# Altium integrated library Altera APEX II.IntLib: 30 symbols (part 10 of 15)

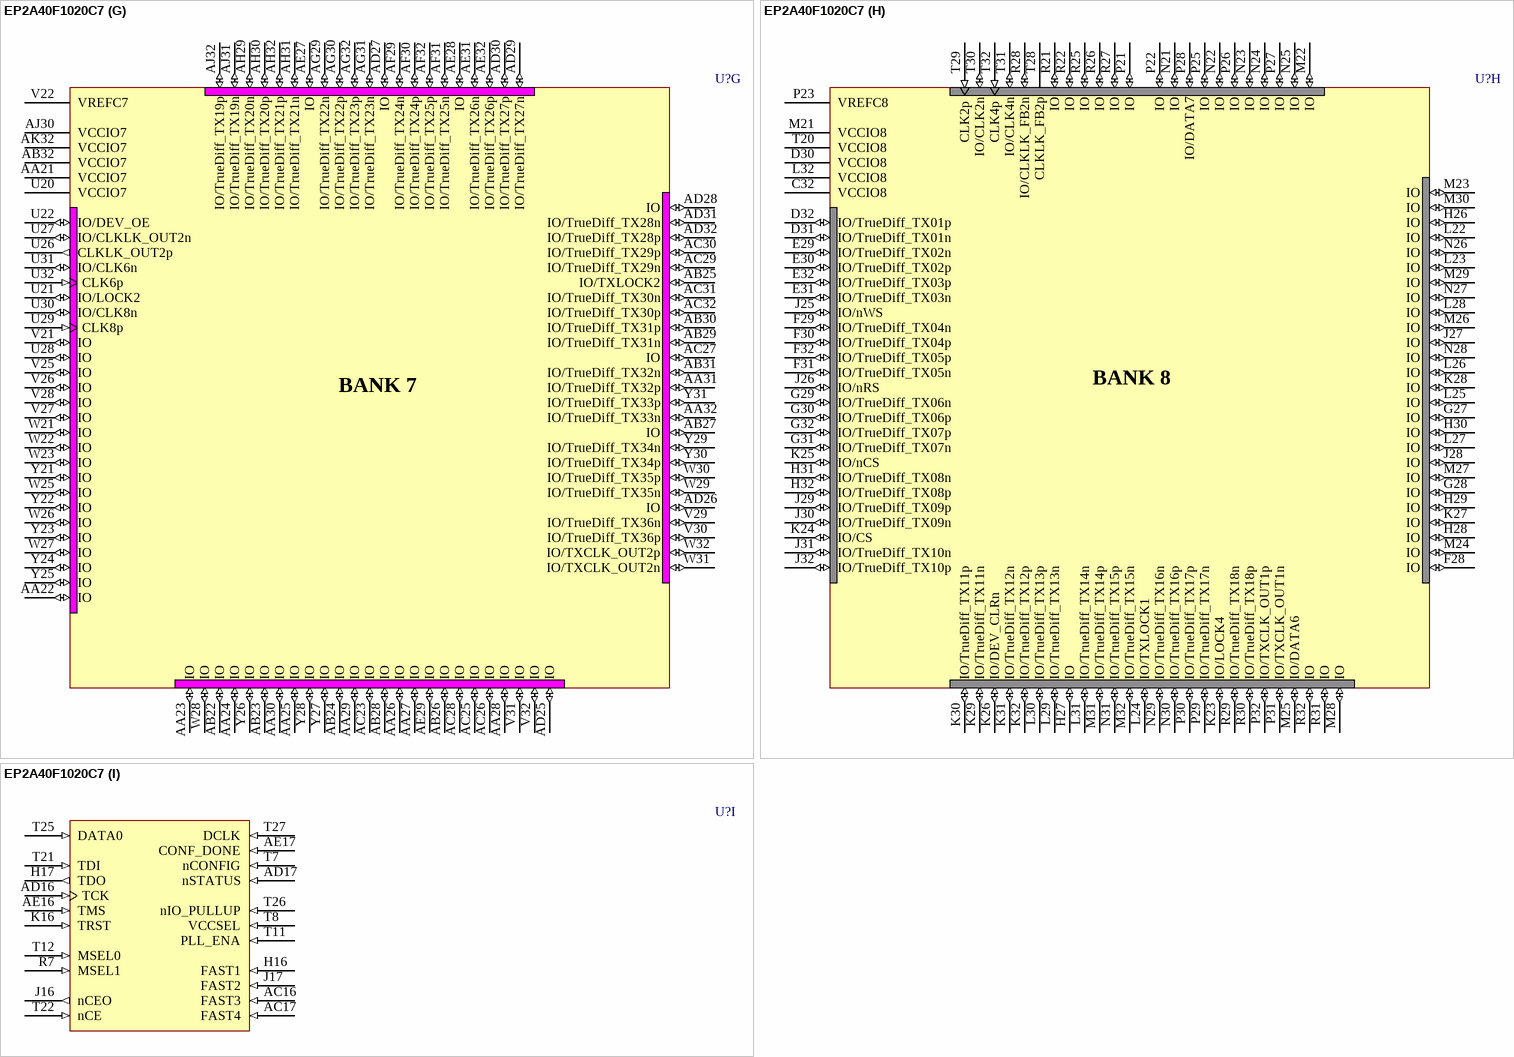
[diagram p92: symbol EP2A40F1020C7]

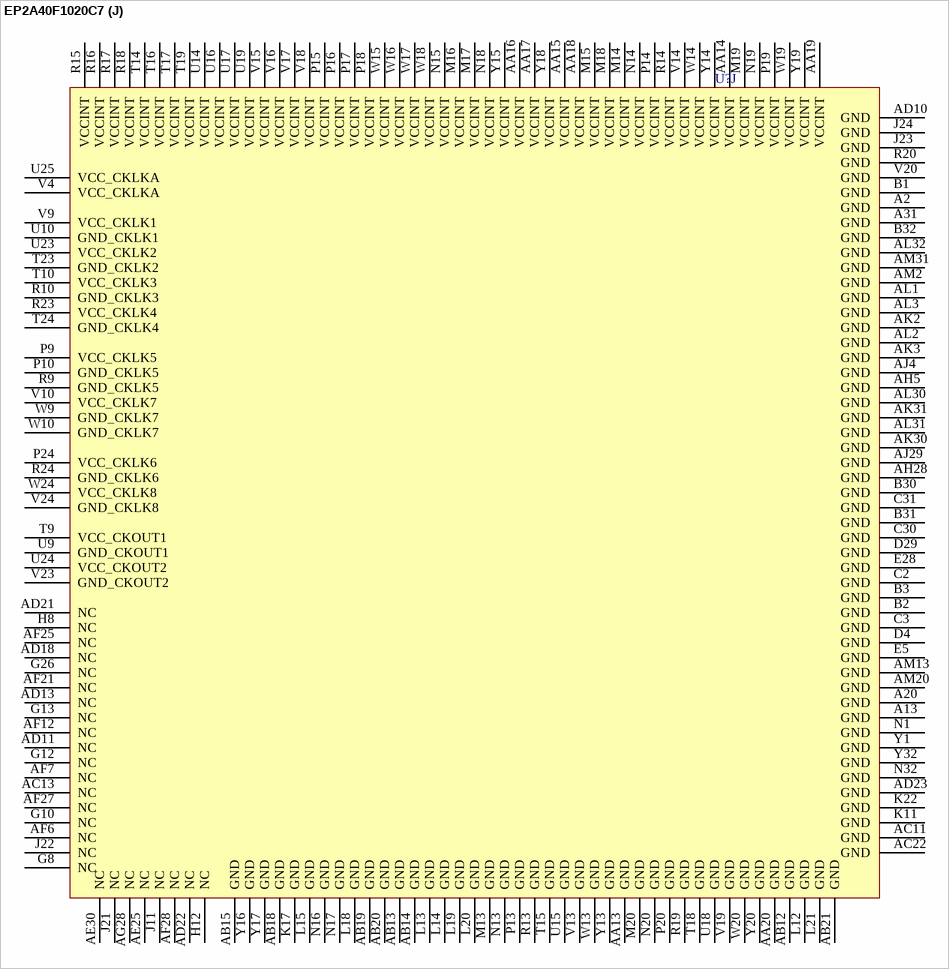
[diagram p93: symbol EP2A40F1020C7]

## EP2A40F1020C7
designator U?
APEX II, 1.5V FPGA with 4 PLLs, 735 I/O pins, Commercial Grade, Speed Grade 7; Published: 23-Sep-2002; LatestRevisionDate: 13-Apr-2006; LatestRevisionNote: IPC-7351 Footprint Added.; DatasheetVersion: ver3.0, Aug-2002; PackageVersion: ver14.1, Oct-2005; PackageReference: FBGA1020; Publisher: Altium Limited; PackageDescription: 1020-Ball FineLine Ball Grid Array (FBGA1020) - Flip Chip; Code_JEDEC: MS-034-AAP-1; ComponentLink1Description: Manufacturer Link; ComponentLink1URL: http://www.altera.com/products/devices/apex2/ap2-index.html; ComponentLink2Description: Datasheet; ComponentLink2URL: http://www.altera.com/literature/ds/ds_ap2.pdf
footprint FBGA1020 (BGA, 1020-Leads, Body 33x33mm, Pitch 1mm)
3D model EP2A40-FBGA1020 (1020-Ball FineLine Ball Grid Array (FBGA1020) - Flip Chip)
part A pins: A17 IO/FlexDiff_RX28p (io), A18 IO/RDYnBSY/FlexDiff_RX26p (io), A19 IO/FlexDiff_RX23p (io), A21 IO/FlexDiff_RX19n (io), A22 VCCIO1 (power), A23 IO/FlexDiff_RX16p (io), A24 IO/FlexDiff_RX12p (io), A25 IO/FlexDiff_RX10p (io), A26 IO/FlexDiff_RX07p (io), A27 IO/FlexDiff_RX05p (io), A28 IO/FlexDiff_RX03p (io), A29 IO/FlexDiff_RX02p (io), A30 VCCIO1 (power), B17 IO/FlexDiff_RX28n (io), B18 IO/FlexDiff_RX26n (io), B19 IO/FlexDiff_RX23n (io), B20 IO/FlexDiff_RX19p (io), B21 IO/FlexDiff_RX17p (io), B22 IO/FlexDiff_RX17n (io), B23 IO/FlexDiff_RX16n (io), B24 IO/FlexDiff_RX12n (io), B25 IO/FlexDiff_RX10n (io), B26 IO/FlexDiff_RX07n (io), B27 IO/FlexDiff_RX05n (io), B28 IO/DATA5/FlexDiff_RX03n (io), B29 IO/FlexDiff_RX02n (io), C17 IO/FlexDiff_RX27p (io), C18 IO/FlexDiff_RX25p (io), C19 IO/DATA1/FlexDiff_RX22p (io), C20 IO/FlexDiff_RX21p (io), C21 IO/FlexDiff_RX18p (io), C22 IO/FlexDiff_RX15p (io), C23 IO/FlexDiff_RX13p (io), C24 IO/FlexDiff_RX11p (io), C25 IO/FlexDiff_RX09p (io), C26 IO/FlexDiff_RX06p (io), C27 IO/FlexDiff_RX04p (io), C28 IO/FlexDiff_RX01p (io), C29 VCCIO1 (power), D17 IO/INIT_DONE/FlexDiff_RX27n (io), D18 IO/FlexDiff_RX25n (io), D19 IO/FlexDiff_RX22n (io), D20 IO/FlexDiff_RX21n (io), D21 IO/FlexDiff_RX18n (io), D22 IO/FlexDiff_RX15n (io), D23 IO/FlexDiff_RX13n (io), D24 IO/FlexDiff_RX11n (io), D25 IO/FlexDiff_RX09n (io), D26 IO/FlexDiff_RX06n (io), D27 IO/FlexDiff_RX04n (io), D28 IO/DATA4/FlexDiff_RX01n (io), E17 IO/FlexDiff_RX73p (io), E18 IO/FlexDiff_RX24p (io), E19 IO/FlexDiff_RX77p (io), E20 IO/FlexDiff_RX20p (io), E21 IO/FlexDiff_RX80p (io), E22 IO/DATA3/FlexDiff_RX14p (io), E23 IO/FlexDiff_RX83n (io), E24 IO/FlexDiff_RX08p (io), E25 IO/FlexDiff_RX86n (io), E26 IO/FlexDiff_RX87n (io), E27 IO/FlexDiff_RX88n (io), F17 IO/FlexDiff_RX73n (io), F18 IO/CLKUSR/FlexDiff_RX24n, C984 (io), F19 IO/FlexDiff_RX77n (io), F20 IO/FlexDiff_RX20n (io), F21 IO/FlexDiff_RX80n (io), F22 IO/FlexDiff_RX14n (io), F23 IO/FlexDiff_RX83p (io), F24 IO/FlexDiff_RX08n (io), F25 IO/FlexDiff_RX86p (io), F26 IO/FlexDiff_RX87p (io), F27 IO/FlexDiff_RX88p (io), G17 IO/DATA2 (io), G18 IO/FlexDiff_RX76p (io), G19 IO/FlexDiff_RX78p (io), G20 IO (io), G21 IO (io), G22 IO/FlexDiff_RX81n (io), G23 IO/FlexDiff_RX82n (io), G24 IO/FlexDiff_RX84n (io), G25 IO/FlexDiff_RX85n (io), H18 IO/FlexDiff_RX76n (io), H19 IO/FlexDiff_RX78n (io), H20 IO/FlexDiff_RX79p (io), H21 IO (io), H22 IO/FlexDiff_RX81p (io), H23 IO/FlexDiff_RX82p (io), H24 IO/FlexDiff_RX84p (io), H25 IO/FlexDiff_RX85p (io), J18 IO/FlexDiff_RX75n (io), J19 IO/FlexDiff_RX75p (io), J20 IO/FlexDiff_RX79n (io), K18 VREFC1 (power), K19 IO/FlexDiff_RX74n (io), K20 IO/FlexDiff_RX74p (io), K21 VCCIO1 (power), L17 VCCIO1 (power)
part B pins: A3 VCCIO2 (power), A4 IO/FlexDiff_RX30p (io), A5 IO/FlexDiff_RX31p (io), A6 IO/FlexDiff_RX33p (io), A7 IO/FlexDiff_RX35p (io), A8 IO/FlexDiff_RX38p (io), A9 IO/FlexDiff_RX40p (io), A10 IO/FlexDiff_RX44p (io), A11 VCCIO2 (power), A12 IO/FlexDiff_RX47n (io), A14 IO/FlexDiff_RX51p (io), A15 IO/FlexDiff_RX54p (io), A16 IO/FlexDiff_RX56p (io), B4 IO/FlexDiff_RX30n (io), B5 IO/FlexDiff_RX31n (io), B6 IO/FlexDiff_RX33n (io), B7 IO/FlexDiff_RX35n (io), B8 IO/FlexDiff_RX38n (io), B9 IO/FlexDiff_RX40n (io), B10 IO/FlexDiff_RX44n (io), B11 IO/FlexDiff_RX45n (io), B12 IO/FlexDiff_RX45p (io), B13 IO/FlexDiff_RX47p (io), B14 IO/FlexDiff_RX51n (io), B15 IO/FlexDiff_RX54n (io), B16 IO/FlexDiff_RX56n (io), C4 VCCIO2 (power), C5 IO/FlexDiff_RX29p (io), C6 IO/FlexDiff_RX32p (io), C7 IO/FlexDiff_RX34p (io), C8 IO/FlexDiff_RX37p (io), C9 IO/FlexDiff_RX39p (io), C10 IO/FlexDiff_RX41p (io), C11 IO/FlexDiff_RX43p (io), C12 IO/FlexDiff_RX46p (io), C13 IO/FlexDiff_RX49p (io), C14 IO/FlexDiff_RX50p (io), C15 IO/FlexDiff_RX53p (io), C16 IO/FlexDiff_RX55p (io), D5 IO/FlexDiff_RX29n (io), D6 IO/FlexDiff_RX32n (io), D7 IO/FlexDiff_RX34n (io), D8 IO/FlexDiff_RX37n (io), D9 IO/FlexDiff_RX39n (io), D10 IO/FlexDiff_RX41n (io), D11 IO/FlexDiff_RX43n (io), D12 IO/FlexDiff_RX46n (io), D13 IO/FlexDiff_RX49n (io), D14 IO/FlexDiff_RX50n (io), D15 IO/FlexDiff_RX53n (io), D16 IO/FlexDiff_RX55n (io), E6 IO/FlexDiff_RX58n (io), E7 IO/FlexDiff_RX59n (io), E8 IO/FlexDiff_RX60n (io), E9 IO/FlexDiff_RX36p (io), E10 IO/FlexDiff_RX64n (io), E11 IO/FlexDiff_RX42p (io), E12 IO/FlexDiff_RX65p (io), E13 IO/FlexDiff_RX48p (io), E14 IO/FlexDiff_RX67p (io), E15 IO/FlexDiff_RX52p (io), E16 IO/FlexDiff_RX72p (io), F6 IO/FlexDiff_RX58p (io), F7 IO/FlexDiff_RX59p (io), F8 IO/FlexDiff_RX60p (io), F9 IO/FlexDiff_RX36n (io), F10 IO/FlexDiff_RX64p (io), F11 IO/FlexDiff_RX42n (io), F12 IO/FlexDiff_RX65n (io), F13 IO/FlexDiff_RX48n (io), F14 IO/FlexDiff_RX67n (io), F15 IO/FlexDiff_RX52n (io), F16 IO/FlexDiff_RX72n (io), G7 IO/FlexDiff_RX57n (io), G9 IO/FlexDiff_RX61n (io), G11 IO (io), G14 IO/FlexDiff_RX68p (io), G15 IO/FlexDiff_RX69p (io), G16 IO (io), H7 IO/FlexDiff_RX57p (io), H9 IO/FlexDiff_RX61p (io), H10 IO/FlexDiff_RX63n (io), H11 IO (io), H13 IO (io), H14 IO/FlexDiff_RX68n (io), H15 IO/FlexDiff_RX69n (io), J9 IO/FlexDiff_RX62n (io), J10 IO/FlexDiff_RX63p (io), J12 VREFC2 (power), J13 IO/FlexDiff_RX66p (io), J14 IO/FlexDiff_RX70p (io), J15 IO/FlexDiff_RX71p (io), K9 IO/FlexDiff_RX62p (io), K12 VCCIO2 (power), K13 IO/FlexDiff_RX66n (io), K14 IO/FlexDiff_RX70n (io), K15 IO/FlexDiff_RX71n (io), L16 VCCIO2 (power)
part C pins: C1 VCCIO3 (power), D1 IO/TrueDiff_RX01p (io), D2 IO/TrueDiff_RX01n (io), D3 VCCIO3 (power), E1 IO/TrueDiff_RX03p (io), E2 IO/TrueDiff_RX03n (io), E3 IO/TrueDiff_RX02p (io), E4 IO/TrueDiff_RX02n (io), F1 IO/TrueDiff_RX05p (io), F2 IO/TrueDiff_RX05n (io), F3 IO/TrueDiff_RX04p (io), F4 IO/TrueDiff_RX04n (io), F5 IO (io), G1 IO/TrueDiff_RX07p (io), G2 IO/TrueDiff_RX07n (io), G3 IO/TrueDiff_RX06p (io), G4 IO/TrueDiff_RX06n (io), G5 IO (io), G6 IO (io), H1 IO/TrueDiff_RX08p (io), H2 IO/TrueDiff_RX08n (io), H3 IO (io), H4 IO (io), H5 IO (io), H6 IO (io), J1 IO/TrueDiff_RX10p (io), J2 IO/TrueDiff_RX10n (io), J3 IO/TrueDiff_RX09p (io), J4 IO/TrueDiff_RX09n (io), J5 IO (io), J6 IO (io), J7 IO (io), J8 IO (io), K1 IO/TrueDiff_RX12p (io), K2 IO/TrueDiff_RX12n (io), K3 IO/TrueDiff_RX11p (io), K4 IO/TrueDiff_RX11n (io), K5 IO (io), K6 IO (io), K7 IO (io), K8 IO (io), K10 IO (io), L1 VCCIO3 (power), L2 IO/TrueDiff_RX14n (io), L3 IO/TrueDiff_RX13p (io), L4 IO/TrueDiff_RX13n (io), L5 IO (io), L6 IO (io), L7 IO/RXLOCK1 (io), L8 IO (io), L9 IO (io), L10 IO (io), L11 IO (io), M1 IO/TrueDiff_RX15n (io), M2 IO/TrueDiff_RX14p (io), M3 IO (io), M4 IO (io), M5 IO (io), M6 IO (io), M7 IO (io), M8 IO (io), M9 IO (io), M10 IO (io), M11 IO (io), M12 VCCIO3 (power), N2 IO/TrueDiff_RX15p (io), N3 IO/TrueDiff_RX16p (io), N4 IO/TrueDiff_RX16n (io), N5 IO (io), N6 IO (io), N7 IO (io), N8 IO (io), N9 IO (io), N10 IO (io), N11 IO (io), N12 IO (io), P1 IO/TrueDiff_RX17p (io), P2 IO/TrueDiff_RX17n (io), P3 IO/TrueDiff_RX18p (io), P4 IO/TrueDiff_RX18n (io), P5 IO (io), P6 IO (io), P7 IO (io), P8 IO (io), P11 IO (io), P12 IO (io), R1 IO/RXCLK_IN1n (io), R2 IO/RXCLK_IN1p (io), R3 IO (io), R4 IO (io), R5 IO (io), R6 IO/LOCK3 (io), R8 IO (io), R11 VREFC3 (power), R12 IO (io), T1 CLK7p (in), T2 IO/CLK7n (io), T3 CLK5p (in), T4 IO/CLK5n (io), T5 CLKLK_OUT1p (out), T6 IO/CLKLK_OUT1n (io), T13 VCCIO3 (power)
part D pins: AA1 IO/TrueDiff_RX33n (io), AA2 IO/TrueDiff_RX32p (io), AA3 IO (io), AA4 IO (io), AA5 IO (io), AA6 IO (io), AA7 IO (io), AA8 IO (io), AA9 IO (io), AA10 IO (io), AA11 IO (io), AA12 VCCIO4 (power), AB1 VCCIO4 (power), AB2 IO/TrueDiff_RX32n (io), AB3 IO/TrueDiff_RX31p (io), AB4 IO/TrueDiff_RX31n (io), AB5 IO (io), AB6 IO (io), AB7 IO (io), AB8 IO (io), AB9 IO (io), AB10 IO (io), AB11 IO (io), AC1 IO/TrueDiff_RX30p (io), AC2 IO/TrueDiff_RX30n (io), AC3 IO/TrueDiff_RX29p (io), AC4 IO/TrueDiff_RX29n (io), AC5 IO (io), AC6 IO (io), AC7 IO (io), AC8 IO (io), AC10 IO (io), AD1 IO/TrueDiff_RX28p (io), AD2 IO/TrueDiff_RX28n (io), AD3 IO/TrueDiff_RX27p (io), AD4 IO/TrueDiff_RX27n (io), AD5 IO (io), AD6 IO (io), AD7 IO (io), AD8 IO (io), AE1 IO/TrueDiff_RX26p (io), AE2 IO/TrueDiff_RX26n (io), AE3 IO (io), AE4 IO (io), AE5 IO (io), AE6 IO (io), AE7 IO (io), AF1 IO/TrueDiff_RX25p (io), AF2 IO/TrueDiff_RX25n (io), AF3 IO/TrueDiff_RX24p (io), AF4 IO/TrueDiff_RX24n (io), AF5 IO (io), AG1 IO/TrueDiff_RX23p (io), AG2 IO/TrueDiff_RX23n (io), AG3 IO/TrueDiff_RX22p (io), AG4 IO/TrueDiff_RX22n (io), AG5 IO (io), AH1 IO/TrueDiff_RX21p (io), AH2 IO/TrueDiff_RX21n (io), AH3 IO/TrueDiff_RX20p (io), AH4 IO/TrueDiff_RX20n (io), AJ1 IO/TrueDiff_RX19p (io), AJ2 IO/TrueDiff_RX19n (io), AJ3 VCCIO4 (power), AK1 VCCIO4 (power), U1 CLK1p (in), U2 IO/CLK1n (io), U3 CLK3p (in), U4 IO/CLK3n (io), U5 CLKLK_FB1p, U6 IO/CLKLK_FB1n (io), U7 IO (io), U8 IO/LOCK1 (io), U11 IO (io), U12 IO (io), U13 VCCIO4 (power), V1 IO/RXCLK_IN2n (io), V2 IO/RXCLK_IN2p (io), V3 IO (io), V5 IO (io), V6 IO (io), V7 IO (io), V8 IO/RXLOCK2 (io), V11 IO (io), V12 VREFC4 (power), W1 IO/TrueDiff_RX35p (io), W2 IO/TrueDiff_RX35n (io), W3 IO/TrueDiff_RX36p (io), W4 IO/TrueDiff_RX36n (io), W5 IO (io), W6 IO (io), W7 IO (io), W8 IO (io), W11 IO (io), W12 IO (io), Y2 IO/TrueDiff_RX33p (io), Y3 IO/TrueDiff_RX34p (io), Y4 IO/TrueDiff_RX34n (io), Y5 IO (io), Y6 IO (io), Y7 IO (io), Y8 IO (io), Y9 IO (io), Y10 IO (io), Y11 IO (io), Y12 IO (io)
part E pins: AB16 VCCIO5 (power), AC9 IO/FlexDiff_TX83p (io), AC12 VCCIO5 (power), AC14 IO/FlexDiff_TX75n (io), AC15 IO/FlexDiff_TX74n (io), AD9 IO/FlexDiff_TX83n (io), AD12 VREFC5 (power), AD14 IO/FlexDiff_TX75p (io), AD15 IO/FlexDiff_TX74p (io), AE8 IO/FlexDiff_TX85p (io), AE9 IO/FlexDiff_TX84p (io), AE10 IO/FlexDiff_TX82p (io), AE11 IO (io), AE12 IO (io), AE13 IO/FlexDiff_TX79n (io), AE14 IO/FlexDiff_TX78n (io), AE15 IO/FlexDiff_TX76n (io), AF8 IO/FlexDiff_TX85n (io), AF9 IO/FlexDiff_TX84n (io), AF10 IO/FlexDiff_TX82n (io), AF11 IO (io), AF13 IO/FlexDiff_TX79p (io), AF14 IO/FlexDiff_TX78p (io), AF15 IO/FlexDiff_TX76p (io), AF16 IO (io), AG6 IO/FlexDiff_TX88p (io), AG7 IO/FlexDiff_TX87p (io), AG8 IO/FlexDiff_TX86p (io), AG9 IO/FlexDiff_TX36n (io), AG10 IO/FlexDiff_TX81p (io), AG11 IO/FlexDiff_TX42n (io), AG12 IO/FlexDiff_TX80n (io), AG13 IO/FlexDiff_TX48n (io), AG14 IO/FlexDiff_TX77n (io), AG15 IO/FlexDiff_TX52n (io), AG16 IO/FlexDiff_TX73n (io), AH6 IO/FlexDiff_TX88n (io), AH7 IO/FlexDiff_TX87n (io), AH8 IO/FlexDiff_TX86n (io), AH9 IO/FlexDiff_TX36p (io), AH10 IO/FlexDiff_TX81n (io), AH11 IO/FlexDiff_TX42p (io), AH12 IO/FlexDiff_TX80p (io), AH13 IO/FlexDiff_TX48p (io), AH14 IO/FlexDiff_TX77p (io), AH15 IO/FlexDiff_TX52p (io), AH16 IO/FlexDiff_TX73p (io), AJ5 IO/FlexDiff_TX29n (io), AJ6 IO/FlexDiff_TX32n (io), AJ7 IO/FlexDiff_TX34n (io), AJ8 IO/FlexDiff_TX37n (io), AJ9 IO/FlexDiff_TX39n (io), AJ10 IO/FlexDiff_TX41n (io), AJ11 IO/FlexDiff_TX43n (io), AJ12 IO/FlexDiff_TX46n (io), AJ13 IO/FlexDiff_TX49n (io), AJ14 IO/FlexDiff_TX50n (io), AJ15 IO/FlexDiff_TX53n (io), AJ16 IO/FlexDiff_TX55n (io), AK4 VCCIO5 (power), AK5 IO/FlexDiff_TX29p (io), AK6 IO/FlexDiff_TX32p (io), AK7 IO/FlexDiff_TX34p (io), AK8 IO/FlexDiff_TX37p (io), AK9 IO/FlexDiff_TX39p (io), AK10 IO/FlexDiff_TX41p (io), AK11 IO/FlexDiff_TX43p (io), AK12 IO/FlexDiff_TX46p (io), AK13 IO/FlexDiff_TX49p (io), AK14 IO/FlexDiff_TX50p (io), AK15 IO/FlexDiff_TX53p (io), AK16 IO/FlexDiff_TX55p (io), AL4 IO/FlexDiff_TX30n (io), AL5 IO/FlexDiff_TX31n (io), AL6 IO/FlexDiff_TX33n (io), AL7 IO/FlexDiff_TX35n (io), AL8 IO/FlexDiff_TX38n (io), AL9 IO/FlexDiff_TX40n (io), AL10 IO/FlexDiff_TX44n (io), AL11 IO/FlexDiff_TX45n (io), AL12 IO/FlexDiff_TX45p (io), AL13 IO/FlexDiff_TX47p (io), AL14 IO/FlexDiff_TX51n (io), AL15 IO/FlexDiff_TX54n (io), AL16 IO/FlexDiff_TX56n (io), AM3 VCCIO5 (power), AM4 IO/FlexDiff_TX30p (io), AM5 IO/FlexDiff_TX31p (io), AM6 IO/FlexDiff_TX33p (io), AM7 IO/FlexDiff_TX35p (io), AM8 IO/FlexDiff_TX38p (io), AM9 IO/FlexDiff_TX40p (io), AM10 IO/FlexDiff_TX44p (io), AM11 VCCIO5 (power), AM12 IO/FlexDiff_TX47n (io), AM14 IO/FlexDiff_TX51p (io), AM15 IO/FlexDiff_TX54p (io), AM16 IO/FlexDiff_TX56p (io)
part F pins: AB17 VCCIO6 (power), AC18 VREFC6 (power), AC19 IO/FlexDiff_TX70n (io), AC20 IO/FlexDiff_TX69n (io), AC21 VCCIO6 (power), AC24 IO/FlexDiff_TX62p (io), AD19 IO/FlexDiff_TX70p (io), AD20 IO/FlexDiff_TX69p (io), AD24 IO/FlexDiff_TX62n (io), AE18 IO/FlexDiff_TX71n (io), AE19 IO/FlexDiff_TX67n (io), AE20 IO/FlexDiff_TX65n (io), AE21 IO (io), AE22 IO (io), AE23 IO/FlexDiff_TX64p (io), AE24 IO/FlexDiff_TX60p (io), AE26 IO/FlexDiff_TX57p (io), AF17 IO/CDS_ENA (io), AF18 IO/FlexDiff_TX71p (io), AF19 IO/FlexDiff_TX67p (io), AF20 IO/FlexDiff_TX65p (io), AF22 IO (io), AF23 IO/FlexDiff_TX64n (io), AF24 IO/FlexDiff_TX61n (io), AF26 IO/FlexDiff_TX57n (io), AG17 IO/FlexDiff_TX72n (io), AG18 IO/FlexDiff_TX24n (io), AG19 IO/FlexDiff_TX68n (io), AG20 IO/FlexDiff_TX20n (io), AG21 IO/FlexDiff_TX66n (io), AG22 IO/FlexDiff_TX14n (io), AG23 IO/FlexDiff_TX63p (io), AG24 IO/FlexDiff_TX08n (io), AG25 IO/FlexDiff_TX60p (io), AG26 IO/FlexDiff_TX59p (io), AG27 IO/FlexDiff_TX58p (io), AH17 IO/FlexDiff_TX72p (io), AH18 IO/FlexDiff_TX24p (io), AH19 IO/FlexDiff_TX68p (io), AH20 IO/FlexDiff_TX20p (io), AH21 IO/FlexDiff_TX66p (io), AH22 IO/FlexDiff_TX14p (io), AH23 IO/FlexDiff_TX63n (io), AH24 IO/FlexDiff_TX08p (io), AH25 IO/FlexDiff_TX60n (io), AH26 IO/FlexDiff_TX59n (io), AH27 IO/FlexDiff_TX58n (io), AJ17 IO/FlexDiff_TX27n (io), AJ18 IO/FlexDiff_TX25n (io), AJ19 IO/FlexDiff_TX22n (io), AJ20 IO/FlexDiff_TX21n (io), AJ21 IO/FlexDiff_TX18n (io), AJ22 IO/FlexDiff_TX15n (io), AJ23 IO/FlexDiff_TX13n (io), AJ24 IO/FlexDiff_TX11n (io), AJ25 IO/FlexDiff_TX09n (io), AJ26 IO/FlexDiff_TX06n (io), AJ27 IO/FlexDiff_TX04n (io), AJ28 IO/FlexDiff_TX01n (io), AK17 IO/FlexDiff_TX27p (io), AK18 IO/FlexDiff_TX25p (io), AK19 IO/FlexDiff_TX22p (io), AK20 IO/FlexDiff_TX21p (io), AK21 IO/FlexDiff_TX18p (io), AK22 IO/FlexDiff_TX15p (io), AK23 IO/FlexDiff_TX13p (io), AK24 IO/FlexDiff_TX11p (io), AK25 IO/FlexDiff_TX09p (io), AK26 IO/FlexDiff_TX06p (io), AK27 IO/FlexDiff_TX04p (io), AK28 IO/FlexDiff_TX01p (io), AK29 VCCIO6 (power), AL17 IO/FlexDiff_TX28n (io), AL18 IO/FlexDiff_TX26n (io), AL19 IO/FlexDiff_TX23n (io), AL20 IO/FlexDiff_TX19p (io), AL21 IO/FlexDiff_TX17p (io), AL22 IO/FlexDiff_TX17n (io), AL23 IO/FlexDiff_TX16n (io), AL24 IO/FlexDiff_TX12n (io), AL25 IO/FlexDiff_TX10n (io), AL26 IO/FlexDiff_TX07n (io), AL27 IO/FlexDiff_TX05n (io), AL28 IO/FlexDiff_TX03n (io), AL29 IO/FlexDiff_TX02n (io), AM17 IO/FlexDiff_TX28p (io), AM18 IO/FlexDiff_TX26p (io), AM19 IO/FlexDiff_TX23p (io), AM21 IO/FlexDiff_TX19n (io), AM22 VCCIO6 (power), AM23 IO/FlexDiff_TX16p (io), AM24 IO/FlexDiff_TX12p (io), AM25 IO/FlexDiff_TX10p (io), AM26 IO/FlexDiff_TX07p (io), AM27 IO/FlexDiff_TX05p (io), AM28 IO/FlexDiff_TX03p (io), AM29 IO/FlexDiff_TX02p (io), AM30 VCCIO6 (power)
part G pins: AA21 VCCIO7 (power), AA22 IO (io), AA23 IO (io), AA24 IO (io), AA25 IO (io), AA26 IO (io), AA27 IO (io), AA28 IO (io), AA29 IO (io), AA30 IO (io), AA31 IO/TrueDiff_TX32p (io), AA32 IO/TrueDiff_TX33n (io), AB22 IO (io), AB23 IO (io), AB24 IO (io), AB25 IO/TXLOCK2 (io), AB26 IO (io), AB27 IO (io), AB28 IO (io), AB29 IO/TrueDiff_TX31n (io), AB30 IO/TrueDiff_TX31p (io), AB31 IO/TrueDiff_TX32n (io), AB32 VCCIO7 (power), AC23 IO (io), AC25 IO (io), AC26 IO (io), AC27 IO (io), AC28 IO (io), AC29 IO/TrueDiff_TX29n (io), AC30 IO/TrueDiff_TX29p (io), AC31 IO/TrueDiff_TX30n (io), AC32 IO/TrueDiff_TX30p (io), AD25 IO (io), AD26 IO (io), AD27 IO (io), AD28 IO (io), AD29 IO/TrueDiff_TX27n (io), AD30 IO/TrueDiff_TX27p (io), AD31 IO/TrueDiff_TX28n (io), AD32 IO/TrueDiff_TX28p (io), AE27 IO (io), AE28 IO (io), AE29 IO (io), AE31 IO/TrueDiff_TX26n (io), AE32 IO/TrueDiff_TX26p (io), AF29 IO/TrueDiff_TX24n (io), AF30 IO/TrueDiff_TX24p (io), AF31 IO/TrueDiff_TX25n (io), AF32 IO/TrueDiff_TX25p (io), AG29 IO/TrueDiff_TX22n (io), AG30 IO/TrueDiff_TX22p (io), AG31 IO/TrueDiff_TX23n (io), AG32 IO/TrueDiff_TX23p (io), AH29 IO/TrueDiff_TX20n (io), AH30 IO/TrueDiff_TX20p (io), AH31 IO/TrueDiff_TX21n (io), AH32 IO/TrueDiff_TX21p (io), AJ30 VCCIO7 (power), AJ31 IO/TrueDiff_TX19n (io), AJ32 IO/TrueDiff_TX19p (io), AK32 VCCIO7 (power), U20 VCCIO7 (power), U21 IO/LOCK2 (io), U22 IO/DEV_OE (io), U26 CLKLK_OUT2p (out), U27 IO/CLKLK_OUT2n (io), U28 IO (io), U29 CLK8p (in), U30 IO/CLK8n (io), U31 IO/CLK6n (io), U32 CLK6p (in), V21 IO (io), V22 VREFC7 (power), V25 IO (io), V26 IO (io), V27 IO (io), V28 IO (io), V29 IO/TrueDiff_TX36n (io), V30 IO/TrueDiff_TX36p (io), V31 IO (io), V32 IO (io), W21 IO (io), W22 IO (io), W23 IO (io), W25 IO (io), W26 IO (io), W27 IO (io), W28 IO (io), W29 IO/TrueDiff_TX35n (io), W30 IO/TrueDiff_TX35p (io), W31 IO/TXCLK_OUT2n (io), W32 IO/TXCLK_OUT2p (io), Y21 IO (io), Y22 IO (io), Y23 IO (io), Y24 IO (io), Y25 IO (io), Y26 IO (io), Y27 IO (io), Y28 IO (io), Y29 IO/TrueDiff_TX34n (io), Y30 IO/TrueDiff_TX34p (io), Y31 IO/TrueDiff_TX33p (io)
part H pins: C32 VCCIO8 (power), D30 VCCIO8 (power), D31 IO/TrueDiff_TX01n (io), D32 IO/TrueDiff_TX01p (io), E29 IO/TrueDiff_TX02n (io), E30 IO/TrueDiff_TX02p (io), E31 IO/TrueDiff_TX03n (io), E32 IO/TrueDiff_TX03p (io), F28 IO (io), F29 IO/TrueDiff_TX04n (io), F30 IO/TrueDiff_TX04p (io), F31 IO/TrueDiff_TX05n (io), F32 IO/TrueDiff_TX05p (io), G27 IO (io), G28 IO (io), G29 IO/TrueDiff_TX06n (io), G30 IO/TrueDiff_TX06p (io), G31 IO/TrueDiff_TX07n (io), G32 IO/TrueDiff_TX07p (io), H26 IO (io), H27 IO (io), H28 IO (io), H29 IO (io), H30 IO (io), H31 IO/TrueDiff_TX08n (io), H32 IO/TrueDiff_TX08p (io), J25 IO/nWS (io), J26 IO/nRS (io), J27 IO (io), J28 IO (io), J29 IO/TrueDiff_TX09p (io), J30 IO/TrueDiff_TX09n (io), J31 IO/TrueDiff_TX10n (io), J32 IO/TrueDiff_TX10p (io), K23 IO/LOCK4 (io), K24 IO/CS (io), K25 IO/nCS (io), K26 IO/DEV_CLRn (io), K27 IO (io), K28 IO (io), K29 IO/TrueDiff_TX11n (io), K30 IO/TrueDiff_TX11p (io), K31 IO/TrueDiff_TX12n (io), K32 IO/TrueDiff_TX12p (io), L22 IO (io), L23 IO (io), L24 IO/TXLOCK1 (io), L25 IO (io), L26 IO (io), L27 IO (io), L28 IO (io), L29 IO/TrueDiff_TX13n (io), L30 IO/TrueDiff_TX13p (io), L31 IO/TrueDiff_TX14n (io), L32 VCCIO8 (power), M21 VCCIO8 (power), M22 IO (io), M23 IO (io), M24 IO (io), M25 IO/DATA6 (io), M26 IO (io), M27 IO (io), M28 IO (io), M29 IO (io), M30 IO (io), M31 IO/TrueDiff_TX14p (io), M32 IO/TrueDiff_TX15n (io), N21 IO (io), N22 IO (io), N23 IO (io), N24 IO (io), N25 IO (io), N26 IO (io), N27 IO (io), N28 IO (io), N29 IO/TrueDiff_TX16n (io), N30 IO/TrueDiff_TX16p (io), N31 IO/TrueDiff_TX15p (io), P21 IO (io), P22 IO (io), P23 VREFC8 (power), P25 IO (io), P26 IO (io), P27 IO (io), P28 IO/DATA7 (io), P29 IO/TrueDiff_TX17n (io), P30 IO/TrueDiff_TX17p (io), P31 IO/TXCLK_OUT1n (io), P32 IO/TXCLK_OUT1p (io), R21 IO (io), R22 IO (io), R25 IO (io), R26 IO (io), R27 IO (io), R28 IO/CLKLK_FB2n (io), R29 IO/TrueDiff_TX18n (io), R30 IO/TrueDiff_TX18p (io), R31 IO (io), R32 IO (io), T20 VCCIO8 (power), T28 CLKLK_FB2p, T29 CLK2p (in), T30 IO/CLK2n (io), T31 IO/CLK4n (io), T32 CLK4p (in)
part I pins: AC16 FAST3 (in), AC17 FAST4 (in), AD16 TCK (in), AD17 nSTATUS (in), AE16 TMS (in), AE17 CONF_DONE (in), H16 FAST1 (in), H17 TDO (out), J16 nCEO (out), J17 FAST2 (in), K16 TRST (in), R7 MSEL1 (in), T7 nCONFIG (in), T8 VCCSEL (in), T11 PLL_ENA (in), T12 MSEL0 (in), T21 TDI (in), T22 nCE (in), T25 DATA0 (in), T26 nIO_PULLUP (in), T27 DCLK (in)
part J pins: A2 GND (power), A13 GND (power), A20 GND (power), A31 GND (power), AA13 GND (power), AA14 VCCINT (power), AA15 VCCINT (power), AA16 VCCINT (power), AA17 VCCINT (power), AA18 VCCINT (power), AA19 VCCINT (power), AA20 GND (power), AB12 GND (power), AB13 GND (power), AB14 GND (power), AB15 GND (power), AB18 GND (power), AB19 GND (power), AB20 GND (power), AB21 GND (power), AC11 GND (power), AC13 NC, AC22 GND (power), AD10 GND (power), AD11 NC, AD13 NC, AD18 NC, AD21 NC, AD22 NC, AD23 GND (power), AE25 NC, AE30 NC, AF6 NC, AF7 NC, AF12 NC, AF21 NC, AF25 NC, AF27 NC, AF28 NC, AG28 NC, AH5 GND (power), AH28 GND (power), AJ4 GND (power), AJ29 GND (power), AK2 GND (power), AK3 GND (power), AK30 GND (power), AK31 GND (power), AL1 GND (power), AL2 GND (power), AL3 GND (power), AL30 GND (power), AL31 GND (power), AL32 GND (power), AM2 GND (power), AM13 GND (power), AM20 GND (power), AM31 GND (power), B1 GND (power), B2 GND (power), B3 GND (power), B30 GND (power), B31 GND (power), B32 GND (power), C2 GND (power), C3 GND (power), C30 GND (power), C31 GND (power), D4 GND (power), D29 GND (power), E5 GND (power), E28 GND (power), G8 NC, G10 NC, G12 NC, G13 NC, G26 NC, H8 NC, H12 NC, J11 NC, J21 NC, J22 NC, J23 GND (power), J24 GND (power), K11 GND (power), K17 GND (power), K22 GND (power), L12 GND (power), L13 GND (power), L14 GND (power), L15 GND (power), L18 GND (power), L19 GND (power), L20 GND (power), L21 GND (power), M13 GND (power), M14 VCCINT (power), M15 VCCINT (power), M16 VCCINT (power), M17 VCCINT (power), M18 VCCINT (power), M19 VCCINT (power), M20 GND (power), N1 GND (power), N13 GND (power), N14 VCCINT (power), N15 VCCINT (power), N16 GND (power), N17 GND (power), N18 VCCINT (power), N19 VCCINT (power), N20 GND (power), N32 GND (power), P9 VCC_CKLK5 (power), P10 GND_CKLK5 (power), P13 GND (power), P14 VCCINT (power), P15 VCCINT (power), P16 VCCINT (power), P17 VCCINT (power), P18 VCCINT (power), P19 VCCINT (power), P20 GND (power), P24 VCC_CKLK6 (power), R9 GND_CKLK5 (power), R10 GND_CKLK3 (power), R13 GND (power), R14 VCCINT (power), R15 VCCINT (power), R16 VCCINT (power), R17 VCCINT (power), R18 VCCINT (power), R19 GND (power), R20 GND (power), R23 VCC_CKLK4 (power), R24 GND_CKLK6 (power), T9 VCC_CKOUT1 (power), T10 VCC_CKLK3 (power), T14 VCCINT (power), T15 GND (power), T16 VCCINT (power), T17 VCCINT (power), T18 GND (power), T19 VCCINT (power), T23 GND_CKLK2 (power), T24 GND_CKLK4 (power), U9 GND_CKOUT1 (power), U10 GND_CKLK1 (power), U14 VCCINT (power), U15 GND (power), U16 VCCINT (power), U17 VCCINT (power), U18 GND (power), U19 VCCINT (power), U23 VCC_CKLK2 (power), U24 VCC_CKOUT2 (power), U25 VCC_CKLKA (power), V4 VCC_CKLKA (power), V9 VCC_CKLK1 (power), V10 VCC_CKLK7 (power), V13 GND (power), V14 VCCINT (power), V15 VCCINT (power), V16 VCCINT (power), V17 VCCINT (power), V18 VCCINT (power), V19 GND (power), V20 GND (power), V23 GND_CKOUT2 (power), V24 GND_CKLK8 (power), W9 GND_CKLK7 (power), W10 GND_CKLK7 (power), W13 GND (power), W14 VCCINT (power), W15 VCCINT (power), W16 VCCINT (power), W17 VCCINT (power), W18 VCCINT (power), W19 VCCINT (power), W20 GND (power), W24 VCC_CKLK8 (power), Y1 GND (power), Y13 GND (power), Y14 VCCINT (power), Y15 VCCINT (power), Y16 GND (power), Y17 GND (power), Y18 VCCINT (power), Y19 VCCINT (power), Y20 GND (power), Y32 GND (power)
part A text: BANK 1
part B text: BANK 2
part C text: BANK 3
part D text: BANK 4
part E text: BANK 5
part F text: BANK 6
part G text: BANK 7
part H text: BANK 8

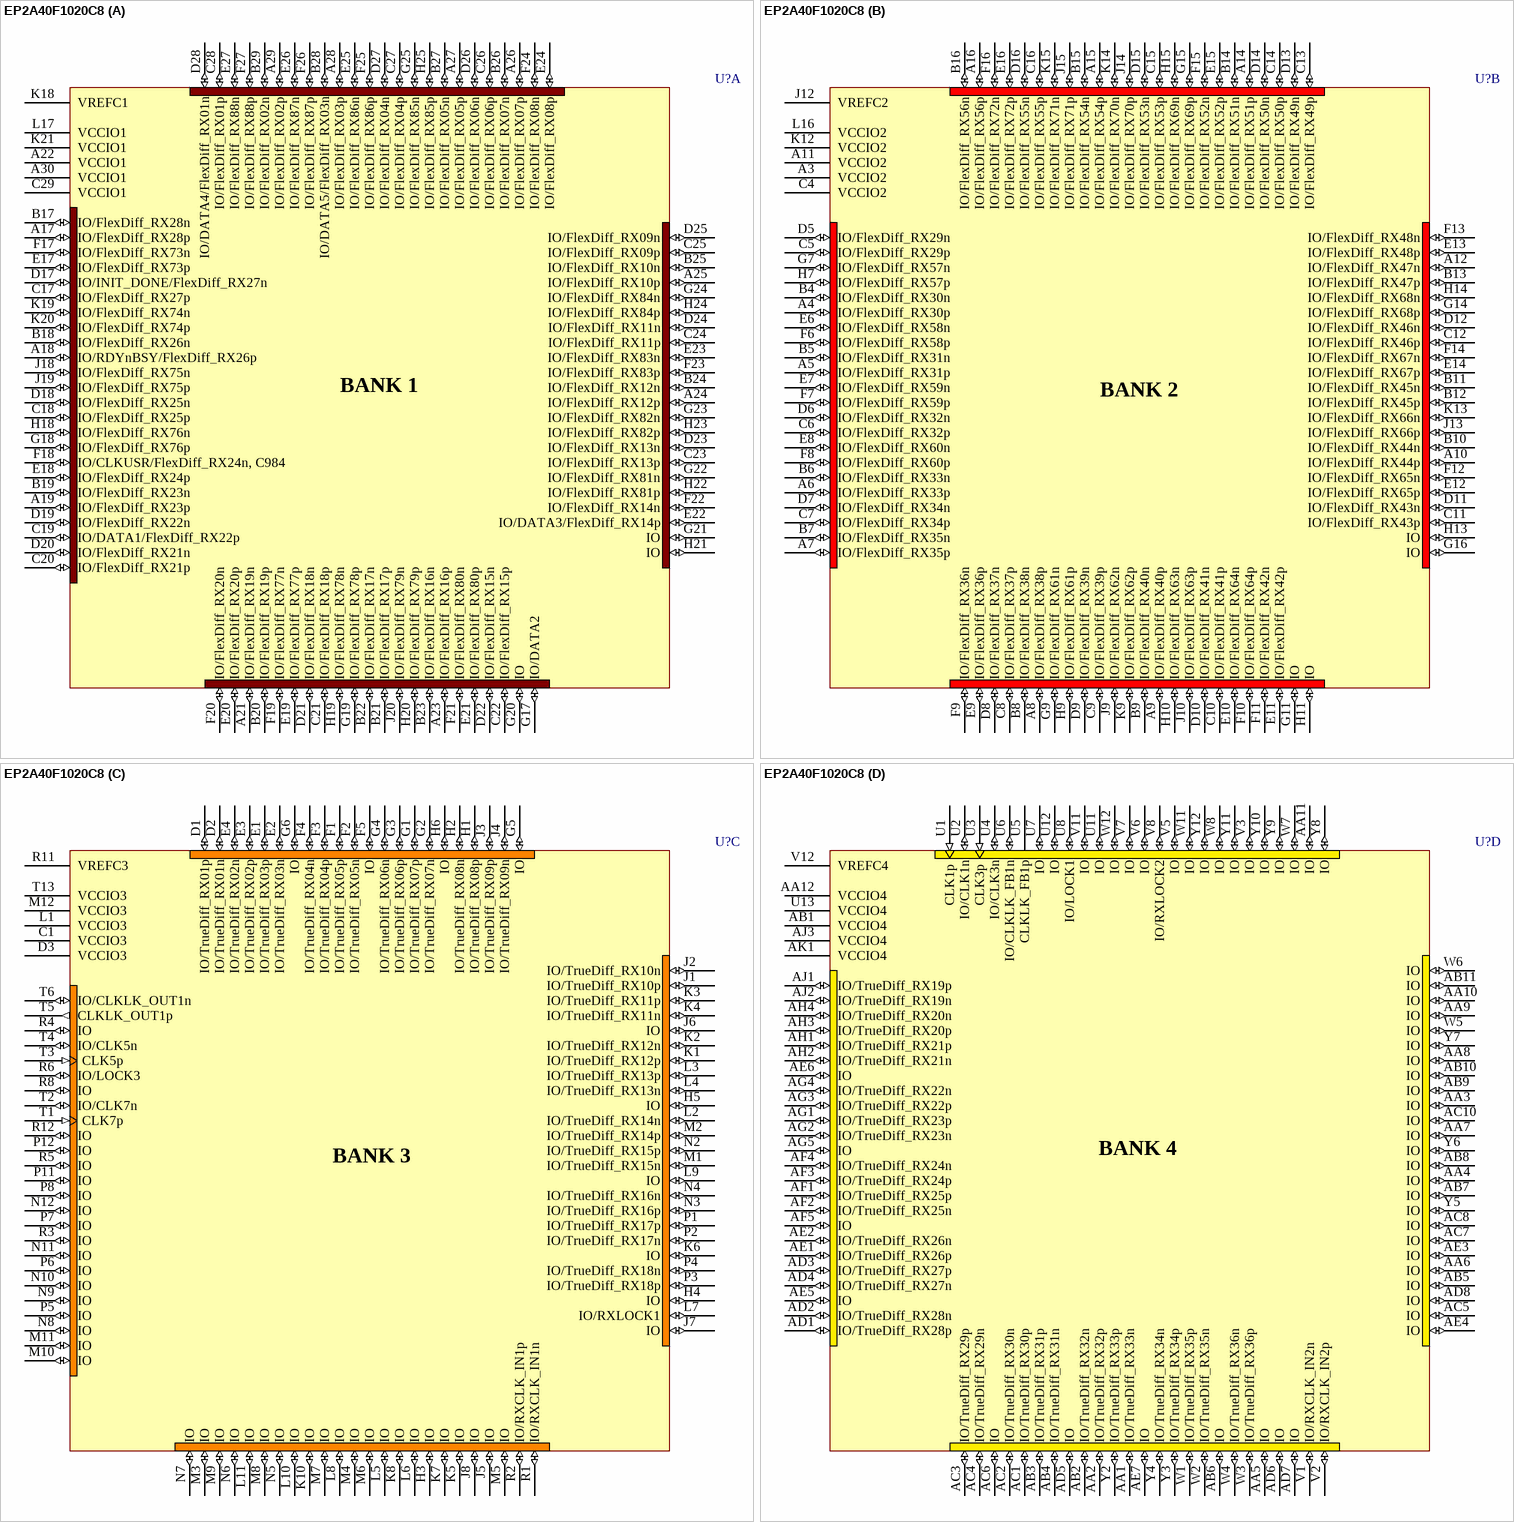
[diagram p94: symbol EP2A40F1020C8]

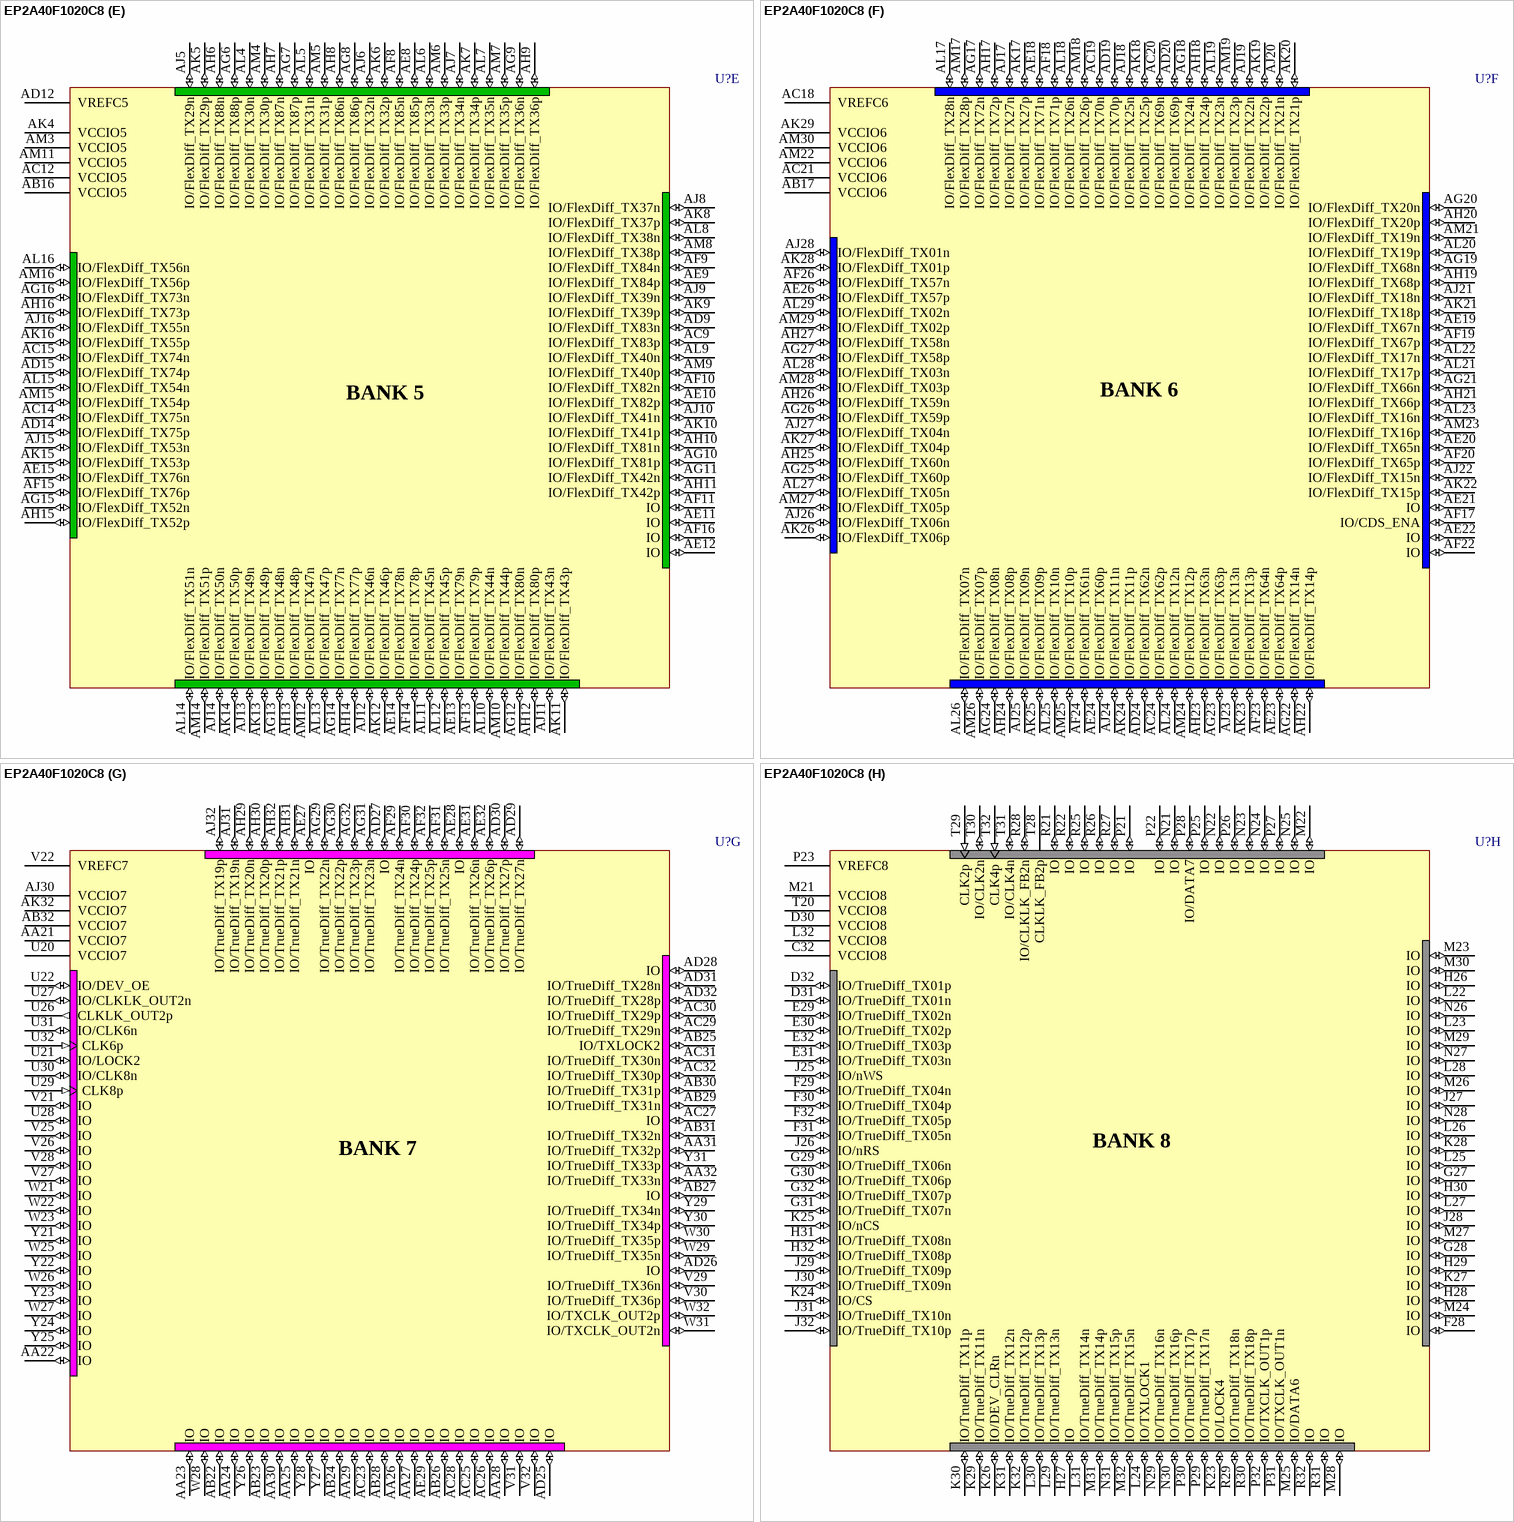
[diagram p95: symbol EP2A40F1020C8]

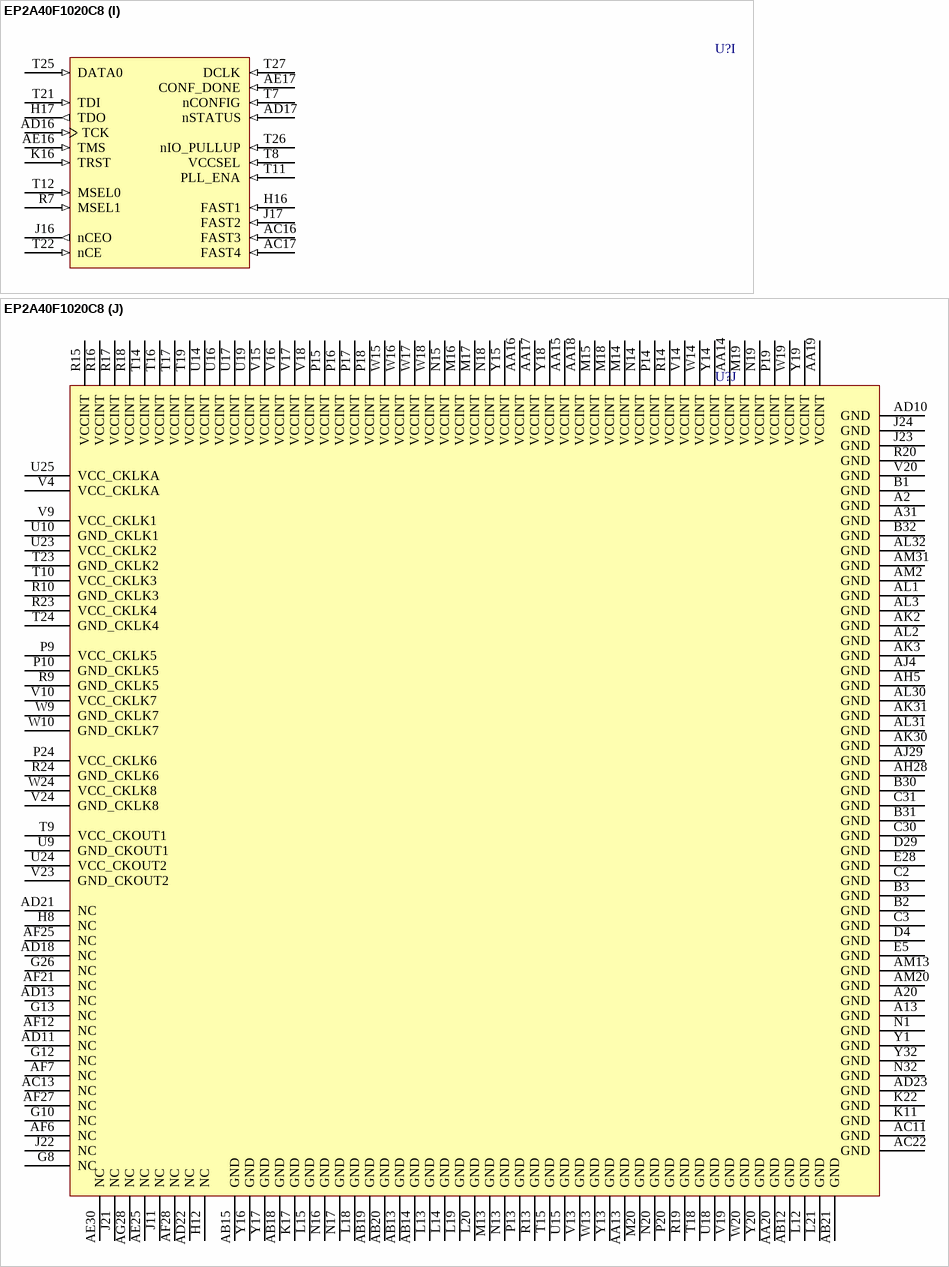
[diagram p96: symbol EP2A40F1020C8]

## EP2A40F1020C8
designator U?
APEX II, 1.5V FPGA with 4 PLLs, 735 I/O pins, Commercial Grade, Speed Grade 8; Published: 23-Sep-2002; LatestRevisionDate: 13-Apr-2006; LatestRevisionNote: IPC-7351 Footprint Added.; DatasheetVersion: ver3.0, Aug-2002; PackageVersion: ver14.1, Oct-2005; PackageReference: FBGA1020; Publisher: Altium Limited; PackageDescription: 1020-Ball FineLine Ball Grid Array (FBGA1020) - Flip Chip; Code_JEDEC: MS-034-AAP-1; ComponentLink1Description: Manufacturer Link; ComponentLink1URL: http://www.altera.com/products/devices/apex2/ap2-index.html; ComponentLink2Description: Datasheet; ComponentLink2URL: http://www.altera.com/literature/ds/ds_ap2.pdf
footprint FBGA1020 (BGA, 1020-Leads, Body 33x33mm, Pitch 1mm)
3D model EP2A40-FBGA1020 (1020-Ball FineLine Ball Grid Array (FBGA1020) - Flip Chip)
part A pins: A17 IO/FlexDiff_RX28p (io), A18 IO/RDYnBSY/FlexDiff_RX26p (io), A19 IO/FlexDiff_RX23p (io), A21 IO/FlexDiff_RX19n (io), A22 VCCIO1 (power), A23 IO/FlexDiff_RX16p (io), A24 IO/FlexDiff_RX12p (io), A25 IO/FlexDiff_RX10p (io), A26 IO/FlexDiff_RX07p (io), A27 IO/FlexDiff_RX05p (io), A28 IO/FlexDiff_RX03p (io), A29 IO/FlexDiff_RX02p (io), A30 VCCIO1 (power), B17 IO/FlexDiff_RX28n (io), B18 IO/FlexDiff_RX26n (io), B19 IO/FlexDiff_RX23n (io), B20 IO/FlexDiff_RX19p (io), B21 IO/FlexDiff_RX17p (io), B22 IO/FlexDiff_RX17n (io), B23 IO/FlexDiff_RX16n (io), B24 IO/FlexDiff_RX12n (io), B25 IO/FlexDiff_RX10n (io), B26 IO/FlexDiff_RX07n (io), B27 IO/FlexDiff_RX05n (io), B28 IO/DATA5/FlexDiff_RX03n (io), B29 IO/FlexDiff_RX02n (io), C17 IO/FlexDiff_RX27p (io), C18 IO/FlexDiff_RX25p (io), C19 IO/DATA1/FlexDiff_RX22p (io), C20 IO/FlexDiff_RX21p (io), C21 IO/FlexDiff_RX18p (io), C22 IO/FlexDiff_RX15p (io), C23 IO/FlexDiff_RX13p (io), C24 IO/FlexDiff_RX11p (io), C25 IO/FlexDiff_RX09p (io), C26 IO/FlexDiff_RX06p (io), C27 IO/FlexDiff_RX04p (io), C28 IO/FlexDiff_RX01p (io), C29 VCCIO1 (power), D17 IO/INIT_DONE/FlexDiff_RX27n (io), D18 IO/FlexDiff_RX25n (io), D19 IO/FlexDiff_RX22n (io), D20 IO/FlexDiff_RX21n (io), D21 IO/FlexDiff_RX18n (io), D22 IO/FlexDiff_RX15n (io), D23 IO/FlexDiff_RX13n (io), D24 IO/FlexDiff_RX11n (io), D25 IO/FlexDiff_RX09n (io), D26 IO/FlexDiff_RX06n (io), D27 IO/FlexDiff_RX04n (io), D28 IO/DATA4/FlexDiff_RX01n (io), E17 IO/FlexDiff_RX73p (io), E18 IO/FlexDiff_RX24p (io), E19 IO/FlexDiff_RX77p (io), E20 IO/FlexDiff_RX20p (io), E21 IO/FlexDiff_RX80p (io), E22 IO/DATA3/FlexDiff_RX14p (io), E23 IO/FlexDiff_RX83n (io), E24 IO/FlexDiff_RX08p (io), E25 IO/FlexDiff_RX86n (io), E26 IO/FlexDiff_RX87n (io), E27 IO/FlexDiff_RX88n (io), F17 IO/FlexDiff_RX73n (io), F18 IO/CLKUSR/FlexDiff_RX24n, C984 (io), F19 IO/FlexDiff_RX77n (io), F20 IO/FlexDiff_RX20n (io), F21 IO/FlexDiff_RX80n (io), F22 IO/FlexDiff_RX14n (io), F23 IO/FlexDiff_RX83p (io), F24 IO/FlexDiff_RX08n (io), F25 IO/FlexDiff_RX86p (io), F26 IO/FlexDiff_RX87p (io), F27 IO/FlexDiff_RX88p (io), G17 IO/DATA2 (io), G18 IO/FlexDiff_RX76p (io), G19 IO/FlexDiff_RX78p (io), G20 IO (io), G21 IO (io), G22 IO/FlexDiff_RX81n (io), G23 IO/FlexDiff_RX82n (io), G24 IO/FlexDiff_RX84n (io), G25 IO/FlexDiff_RX85n (io), H18 IO/FlexDiff_RX76n (io), H19 IO/FlexDiff_RX78n (io), H20 IO/FlexDiff_RX79p (io), H21 IO (io), H22 IO/FlexDiff_RX81p (io), H23 IO/FlexDiff_RX82p (io), H24 IO/FlexDiff_RX84p (io), H25 IO/FlexDiff_RX85p (io), J18 IO/FlexDiff_RX75n (io), J19 IO/FlexDiff_RX75p (io), J20 IO/FlexDiff_RX79n (io), K18 VREFC1 (power), K19 IO/FlexDiff_RX74n (io), K20 IO/FlexDiff_RX74p (io), K21 VCCIO1 (power), L17 VCCIO1 (power)
part B pins: A3 VCCIO2 (power), A4 IO/FlexDiff_RX30p (io), A5 IO/FlexDiff_RX31p (io), A6 IO/FlexDiff_RX33p (io), A7 IO/FlexDiff_RX35p (io), A8 IO/FlexDiff_RX38p (io), A9 IO/FlexDiff_RX40p (io), A10 IO/FlexDiff_RX44p (io), A11 VCCIO2 (power), A12 IO/FlexDiff_RX47n (io), A14 IO/FlexDiff_RX51p (io), A15 IO/FlexDiff_RX54p (io), A16 IO/FlexDiff_RX56p (io), B4 IO/FlexDiff_RX30n (io), B5 IO/FlexDiff_RX31n (io), B6 IO/FlexDiff_RX33n (io), B7 IO/FlexDiff_RX35n (io), B8 IO/FlexDiff_RX38n (io), B9 IO/FlexDiff_RX40n (io), B10 IO/FlexDiff_RX44n (io), B11 IO/FlexDiff_RX45n (io), B12 IO/FlexDiff_RX45p (io), B13 IO/FlexDiff_RX47p (io), B14 IO/FlexDiff_RX51n (io), B15 IO/FlexDiff_RX54n (io), B16 IO/FlexDiff_RX56n (io), C4 VCCIO2 (power), C5 IO/FlexDiff_RX29p (io), C6 IO/FlexDiff_RX32p (io), C7 IO/FlexDiff_RX34p (io), C8 IO/FlexDiff_RX37p (io), C9 IO/FlexDiff_RX39p (io), C10 IO/FlexDiff_RX41p (io), C11 IO/FlexDiff_RX43p (io), C12 IO/FlexDiff_RX46p (io), C13 IO/FlexDiff_RX49p (io), C14 IO/FlexDiff_RX50p (io), C15 IO/FlexDiff_RX53p (io), C16 IO/FlexDiff_RX55p (io), D5 IO/FlexDiff_RX29n (io), D6 IO/FlexDiff_RX32n (io), D7 IO/FlexDiff_RX34n (io), D8 IO/FlexDiff_RX37n (io), D9 IO/FlexDiff_RX39n (io), D10 IO/FlexDiff_RX41n (io), D11 IO/FlexDiff_RX43n (io), D12 IO/FlexDiff_RX46n (io), D13 IO/FlexDiff_RX49n (io), D14 IO/FlexDiff_RX50n (io), D15 IO/FlexDiff_RX53n (io), D16 IO/FlexDiff_RX55n (io), E6 IO/FlexDiff_RX58n (io), E7 IO/FlexDiff_RX59n (io), E8 IO/FlexDiff_RX60n (io), E9 IO/FlexDiff_RX36p (io), E10 IO/FlexDiff_RX64n (io), E11 IO/FlexDiff_RX42p (io), E12 IO/FlexDiff_RX65p (io), E13 IO/FlexDiff_RX48p (io), E14 IO/FlexDiff_RX67p (io), E15 IO/FlexDiff_RX52p (io), E16 IO/FlexDiff_RX72p (io), F6 IO/FlexDiff_RX58p (io), F7 IO/FlexDiff_RX59p (io), F8 IO/FlexDiff_RX60p (io), F9 IO/FlexDiff_RX36n (io), F10 IO/FlexDiff_RX64p (io), F11 IO/FlexDiff_RX42n (io), F12 IO/FlexDiff_RX65n (io), F13 IO/FlexDiff_RX48n (io), F14 IO/FlexDiff_RX67n (io), F15 IO/FlexDiff_RX52n (io), F16 IO/FlexDiff_RX72n (io), G7 IO/FlexDiff_RX57n (io), G9 IO/FlexDiff_RX61n (io), G11 IO (io), G14 IO/FlexDiff_RX68p (io), G15 IO/FlexDiff_RX69p (io), G16 IO (io), H7 IO/FlexDiff_RX57p (io), H9 IO/FlexDiff_RX61p (io), H10 IO/FlexDiff_RX63n (io), H11 IO (io), H13 IO (io), H14 IO/FlexDiff_RX68n (io), H15 IO/FlexDiff_RX69n (io), J9 IO/FlexDiff_RX62n (io), J10 IO/FlexDiff_RX63p (io), J12 VREFC2 (power), J13 IO/FlexDiff_RX66p (io), J14 IO/FlexDiff_RX70p (io), J15 IO/FlexDiff_RX71p (io), K9 IO/FlexDiff_RX62p (io), K12 VCCIO2 (power), K13 IO/FlexDiff_RX66n (io), K14 IO/FlexDiff_RX70n (io), K15 IO/FlexDiff_RX71n (io), L16 VCCIO2 (power)
part C pins: C1 VCCIO3 (power), D1 IO/TrueDiff_RX01p (io), D2 IO/TrueDiff_RX01n (io), D3 VCCIO3 (power), E1 IO/TrueDiff_RX03p (io), E2 IO/TrueDiff_RX03n (io), E3 IO/TrueDiff_RX02p (io), E4 IO/TrueDiff_RX02n (io), F1 IO/TrueDiff_RX05p (io), F2 IO/TrueDiff_RX05n (io), F3 IO/TrueDiff_RX04p (io), F4 IO/TrueDiff_RX04n (io), F5 IO (io), G1 IO/TrueDiff_RX07p (io), G2 IO/TrueDiff_RX07n (io), G3 IO/TrueDiff_RX06p (io), G4 IO/TrueDiff_RX06n (io), G5 IO (io), G6 IO (io), H1 IO/TrueDiff_RX08p (io), H2 IO/TrueDiff_RX08n (io), H3 IO (io), H4 IO (io), H5 IO (io), H6 IO (io), J1 IO/TrueDiff_RX10p (io), J2 IO/TrueDiff_RX10n (io), J3 IO/TrueDiff_RX09p (io), J4 IO/TrueDiff_RX09n (io), J5 IO (io), J6 IO (io), J7 IO (io), J8 IO (io), K1 IO/TrueDiff_RX12p (io), K2 IO/TrueDiff_RX12n (io), K3 IO/TrueDiff_RX11p (io), K4 IO/TrueDiff_RX11n (io), K5 IO (io), K6 IO (io), K7 IO (io), K8 IO (io), K10 IO (io), L1 VCCIO3 (power), L2 IO/TrueDiff_RX14n (io), L3 IO/TrueDiff_RX13p (io), L4 IO/TrueDiff_RX13n (io), L5 IO (io), L6 IO (io), L7 IO/RXLOCK1 (io), L8 IO (io), L9 IO (io), L10 IO (io), L11 IO (io), M1 IO/TrueDiff_RX15n (io), M2 IO/TrueDiff_RX14p (io), M3 IO (io), M4 IO (io), M5 IO (io), M6 IO (io), M7 IO (io), M8 IO (io), M9 IO (io), M10 IO (io), M11 IO (io), M12 VCCIO3 (power), N2 IO/TrueDiff_RX15p (io), N3 IO/TrueDiff_RX16p (io), N4 IO/TrueDiff_RX16n (io), N5 IO (io), N6 IO (io), N7 IO (io), N8 IO (io), N9 IO (io), N10 IO (io), N11 IO (io), N12 IO (io), P1 IO/TrueDiff_RX17p (io), P2 IO/TrueDiff_RX17n (io), P3 IO/TrueDiff_RX18p (io), P4 IO/TrueDiff_RX18n (io), P5 IO (io), P6 IO (io), P7 IO (io), P8 IO (io), P11 IO (io), P12 IO (io), R1 IO/RXCLK_IN1n (io), R2 IO/RXCLK_IN1p (io), R3 IO (io), R4 IO (io), R5 IO (io), R6 IO/LOCK3 (io), R8 IO (io), R11 VREFC3 (power), R12 IO (io), T1 CLK7p (in), T2 IO/CLK7n (io), T3 CLK5p (in), T4 IO/CLK5n (io), T5 CLKLK_OUT1p (out), T6 IO/CLKLK_OUT1n (io), T13 VCCIO3 (power)
part D pins: AA1 IO/TrueDiff_RX33n (io), AA2 IO/TrueDiff_RX32p (io), AA3 IO (io), AA4 IO (io), AA5 IO (io), AA6 IO (io), AA7 IO (io), AA8 IO (io), AA9 IO (io), AA10 IO (io), AA11 IO (io), AA12 VCCIO4 (power), AB1 VCCIO4 (power), AB2 IO/TrueDiff_RX32n (io), AB3 IO/TrueDiff_RX31p (io), AB4 IO/TrueDiff_RX31n (io), AB5 IO (io), AB6 IO (io), AB7 IO (io), AB8 IO (io), AB9 IO (io), AB10 IO (io), AB11 IO (io), AC1 IO/TrueDiff_RX30p (io), AC2 IO/TrueDiff_RX30n (io), AC3 IO/TrueDiff_RX29p (io), AC4 IO/TrueDiff_RX29n (io), AC5 IO (io), AC6 IO (io), AC7 IO (io), AC8 IO (io), AC10 IO (io), AD1 IO/TrueDiff_RX28p (io), AD2 IO/TrueDiff_RX28n (io), AD3 IO/TrueDiff_RX27p (io), AD4 IO/TrueDiff_RX27n (io), AD5 IO (io), AD6 IO (io), AD7 IO (io), AD8 IO (io), AE1 IO/TrueDiff_RX26p (io), AE2 IO/TrueDiff_RX26n (io), AE3 IO (io), AE4 IO (io), AE5 IO (io), AE6 IO (io), AE7 IO (io), AF1 IO/TrueDiff_RX25p (io), AF2 IO/TrueDiff_RX25n (io), AF3 IO/TrueDiff_RX24p (io), AF4 IO/TrueDiff_RX24n (io), AF5 IO (io), AG1 IO/TrueDiff_RX23p (io), AG2 IO/TrueDiff_RX23n (io), AG3 IO/TrueDiff_RX22p (io), AG4 IO/TrueDiff_RX22n (io), AG5 IO (io), AH1 IO/TrueDiff_RX21p (io), AH2 IO/TrueDiff_RX21n (io), AH3 IO/TrueDiff_RX20p (io), AH4 IO/TrueDiff_RX20n (io), AJ1 IO/TrueDiff_RX19p (io), AJ2 IO/TrueDiff_RX19n (io), AJ3 VCCIO4 (power), AK1 VCCIO4 (power), U1 CLK1p (in), U2 IO/CLK1n (io), U3 CLK3p (in), U4 IO/CLK3n (io), U5 CLKLK_FB1p, U6 IO/CLKLK_FB1n (io), U7 IO (io), U8 IO/LOCK1 (io), U11 IO (io), U12 IO (io), U13 VCCIO4 (power), V1 IO/RXCLK_IN2n (io), V2 IO/RXCLK_IN2p (io), V3 IO (io), V5 IO (io), V6 IO (io), V7 IO (io), V8 IO/RXLOCK2 (io), V11 IO (io), V12 VREFC4 (power), W1 IO/TrueDiff_RX35p (io), W2 IO/TrueDiff_RX35n (io), W3 IO/TrueDiff_RX36p (io), W4 IO/TrueDiff_RX36n (io), W5 IO (io), W6 IO (io), W7 IO (io), W8 IO (io), W11 IO (io), W12 IO (io), Y2 IO/TrueDiff_RX33p (io), Y3 IO/TrueDiff_RX34p (io), Y4 IO/TrueDiff_RX34n (io), Y5 IO (io), Y6 IO (io), Y7 IO (io), Y8 IO (io), Y9 IO (io), Y10 IO (io), Y11 IO (io), Y12 IO (io)
part E pins: AB16 VCCIO5 (power), AC9 IO/FlexDiff_TX83p (io), AC12 VCCIO5 (power), AC14 IO/FlexDiff_TX75n (io), AC15 IO/FlexDiff_TX74n (io), AD9 IO/FlexDiff_TX83n (io), AD12 VREFC5 (power), AD14 IO/FlexDiff_TX75p (io), AD15 IO/FlexDiff_TX74p (io), AE8 IO/FlexDiff_TX85p (io), AE9 IO/FlexDiff_TX84p (io), AE10 IO/FlexDiff_TX82p (io), AE11 IO (io), AE12 IO (io), AE13 IO/FlexDiff_TX79n (io), AE14 IO/FlexDiff_TX78n (io), AE15 IO/FlexDiff_TX76n (io), AF8 IO/FlexDiff_TX85n (io), AF9 IO/FlexDiff_TX84n (io), AF10 IO/FlexDiff_TX82n (io), AF11 IO (io), AF13 IO/FlexDiff_TX79p (io), AF14 IO/FlexDiff_TX78p (io), AF15 IO/FlexDiff_TX76p (io), AF16 IO (io), AG6 IO/FlexDiff_TX88p (io), AG7 IO/FlexDiff_TX87p (io), AG8 IO/FlexDiff_TX86p (io), AG9 IO/FlexDiff_TX36n (io), AG10 IO/FlexDiff_TX81p (io), AG11 IO/FlexDiff_TX42n (io), AG12 IO/FlexDiff_TX80n (io), AG13 IO/FlexDiff_TX48n (io), AG14 IO/FlexDiff_TX77n (io), AG15 IO/FlexDiff_TX52n (io), AG16 IO/FlexDiff_TX73n (io), AH6 IO/FlexDiff_TX88n (io), AH7 IO/FlexDiff_TX87n (io), AH8 IO/FlexDiff_TX86n (io), AH9 IO/FlexDiff_TX36p (io), AH10 IO/FlexDiff_TX81n (io), AH11 IO/FlexDiff_TX42p (io), AH12 IO/FlexDiff_TX80p (io), AH13 IO/FlexDiff_TX48p (io), AH14 IO/FlexDiff_TX77p (io), AH15 IO/FlexDiff_TX52p (io), AH16 IO/FlexDiff_TX73p (io), AJ5 IO/FlexDiff_TX29n (io), AJ6 IO/FlexDiff_TX32n (io), AJ7 IO/FlexDiff_TX34n (io), AJ8 IO/FlexDiff_TX37n (io), AJ9 IO/FlexDiff_TX39n (io), AJ10 IO/FlexDiff_TX41n (io), AJ11 IO/FlexDiff_TX43n (io), AJ12 IO/FlexDiff_TX46n (io), AJ13 IO/FlexDiff_TX49n (io), AJ14 IO/FlexDiff_TX50n (io), AJ15 IO/FlexDiff_TX53n (io), AJ16 IO/FlexDiff_TX55n (io), AK4 VCCIO5 (power), AK5 IO/FlexDiff_TX29p (io), AK6 IO/FlexDiff_TX32p (io), AK7 IO/FlexDiff_TX34p (io), AK8 IO/FlexDiff_TX37p (io), AK9 IO/FlexDiff_TX39p (io), AK10 IO/FlexDiff_TX41p (io), AK11 IO/FlexDiff_TX43p (io), AK12 IO/FlexDiff_TX46p (io), AK13 IO/FlexDiff_TX49p (io), AK14 IO/FlexDiff_TX50p (io), AK15 IO/FlexDiff_TX53p (io), AK16 IO/FlexDiff_TX55p (io), AL4 IO/FlexDiff_TX30n (io), AL5 IO/FlexDiff_TX31n (io), AL6 IO/FlexDiff_TX33n (io), AL7 IO/FlexDiff_TX35n (io), AL8 IO/FlexDiff_TX38n (io), AL9 IO/FlexDiff_TX40n (io), AL10 IO/FlexDiff_TX44n (io), AL11 IO/FlexDiff_TX45n (io), AL12 IO/FlexDiff_TX45p (io), AL13 IO/FlexDiff_TX47p (io), AL14 IO/FlexDiff_TX51n (io), AL15 IO/FlexDiff_TX54n (io), AL16 IO/FlexDiff_TX56n (io), AM3 VCCIO5 (power), AM4 IO/FlexDiff_TX30p (io), AM5 IO/FlexDiff_TX31p (io), AM6 IO/FlexDiff_TX33p (io), AM7 IO/FlexDiff_TX35p (io), AM8 IO/FlexDiff_TX38p (io), AM9 IO/FlexDiff_TX40p (io), AM10 IO/FlexDiff_TX44p (io), AM11 VCCIO5 (power), AM12 IO/FlexDiff_TX47n (io), AM14 IO/FlexDiff_TX51p (io), AM15 IO/FlexDiff_TX54p (io), AM16 IO/FlexDiff_TX56p (io)
part F pins: AB17 VCCIO6 (power), AC18 VREFC6 (power), AC19 IO/FlexDiff_TX70n (io), AC20 IO/FlexDiff_TX69n (io), AC21 VCCIO6 (power), AC24 IO/FlexDiff_TX62p (io), AD19 IO/FlexDiff_TX70p (io), AD20 IO/FlexDiff_TX69p (io), AD24 IO/FlexDiff_TX62n (io), AE18 IO/FlexDiff_TX71n (io), AE19 IO/FlexDiff_TX67n (io), AE20 IO/FlexDiff_TX65n (io), AE21 IO (io), AE22 IO (io), AE23 IO/FlexDiff_TX64p (io), AE24 IO/FlexDiff_TX60p (io), AE26 IO/FlexDiff_TX57p (io), AF17 IO/CDS_ENA (io), AF18 IO/FlexDiff_TX71p (io), AF19 IO/FlexDiff_TX67p (io), AF20 IO/FlexDiff_TX65p (io), AF22 IO (io), AF23 IO/FlexDiff_TX64n (io), AF24 IO/FlexDiff_TX61n (io), AF26 IO/FlexDiff_TX57n (io), AG17 IO/FlexDiff_TX72n (io), AG18 IO/FlexDiff_TX24n (io), AG19 IO/FlexDiff_TX68n (io), AG20 IO/FlexDiff_TX20n (io), AG21 IO/FlexDiff_TX66n (io), AG22 IO/FlexDiff_TX14n (io), AG23 IO/FlexDiff_TX63p (io), AG24 IO/FlexDiff_TX08n (io), AG25 IO/FlexDiff_TX60p (io), AG26 IO/FlexDiff_TX59p (io), AG27 IO/FlexDiff_TX58p (io), AH17 IO/FlexDiff_TX72p (io), AH18 IO/FlexDiff_TX24p (io), AH19 IO/FlexDiff_TX68p (io), AH20 IO/FlexDiff_TX20p (io), AH21 IO/FlexDiff_TX66p (io), AH22 IO/FlexDiff_TX14p (io), AH23 IO/FlexDiff_TX63n (io), AH24 IO/FlexDiff_TX08p (io), AH25 IO/FlexDiff_TX60n (io), AH26 IO/FlexDiff_TX59n (io), AH27 IO/FlexDiff_TX58n (io), AJ17 IO/FlexDiff_TX27n (io), AJ18 IO/FlexDiff_TX25n (io), AJ19 IO/FlexDiff_TX22n (io), AJ20 IO/FlexDiff_TX21n (io), AJ21 IO/FlexDiff_TX18n (io), AJ22 IO/FlexDiff_TX15n (io), AJ23 IO/FlexDiff_TX13n (io), AJ24 IO/FlexDiff_TX11n (io), AJ25 IO/FlexDiff_TX09n (io), AJ26 IO/FlexDiff_TX06n (io), AJ27 IO/FlexDiff_TX04n (io), AJ28 IO/FlexDiff_TX01n (io), AK17 IO/FlexDiff_TX27p (io), AK18 IO/FlexDiff_TX25p (io), AK19 IO/FlexDiff_TX22p (io), AK20 IO/FlexDiff_TX21p (io), AK21 IO/FlexDiff_TX18p (io), AK22 IO/FlexDiff_TX15p (io), AK23 IO/FlexDiff_TX13p (io), AK24 IO/FlexDiff_TX11p (io), AK25 IO/FlexDiff_TX09p (io), AK26 IO/FlexDiff_TX06p (io), AK27 IO/FlexDiff_TX04p (io), AK28 IO/FlexDiff_TX01p (io), AK29 VCCIO6 (power), AL17 IO/FlexDiff_TX28n (io), AL18 IO/FlexDiff_TX26n (io), AL19 IO/FlexDiff_TX23n (io), AL20 IO/FlexDiff_TX19p (io), AL21 IO/FlexDiff_TX17p (io), AL22 IO/FlexDiff_TX17n (io), AL23 IO/FlexDiff_TX16n (io), AL24 IO/FlexDiff_TX12n (io), AL25 IO/FlexDiff_TX10n (io), AL26 IO/FlexDiff_TX07n (io), AL27 IO/FlexDiff_TX05n (io), AL28 IO/FlexDiff_TX03n (io), AL29 IO/FlexDiff_TX02n (io), AM17 IO/FlexDiff_TX28p (io), AM18 IO/FlexDiff_TX26p (io), AM19 IO/FlexDiff_TX23p (io), AM21 IO/FlexDiff_TX19n (io), AM22 VCCIO6 (power), AM23 IO/FlexDiff_TX16p (io), AM24 IO/FlexDiff_TX12p (io), AM25 IO/FlexDiff_TX10p (io), AM26 IO/FlexDiff_TX07p (io), AM27 IO/FlexDiff_TX05p (io), AM28 IO/FlexDiff_TX03p (io), AM29 IO/FlexDiff_TX02p (io), AM30 VCCIO6 (power)
part G pins: AA21 VCCIO7 (power), AA22 IO (io), AA23 IO (io), AA24 IO (io), AA25 IO (io), AA26 IO (io), AA27 IO (io), AA28 IO (io), AA29 IO (io), AA30 IO (io), AA31 IO/TrueDiff_TX32p (io), AA32 IO/TrueDiff_TX33n (io), AB22 IO (io), AB23 IO (io), AB24 IO (io), AB25 IO/TXLOCK2 (io), AB26 IO (io), AB27 IO (io), AB28 IO (io), AB29 IO/TrueDiff_TX31n (io), AB30 IO/TrueDiff_TX31p (io), AB31 IO/TrueDiff_TX32n (io), AB32 VCCIO7 (power), AC23 IO (io), AC25 IO (io), AC26 IO (io), AC27 IO (io), AC28 IO (io), AC29 IO/TrueDiff_TX29n (io), AC30 IO/TrueDiff_TX29p (io), AC31 IO/TrueDiff_TX30n (io), AC32 IO/TrueDiff_TX30p (io), AD25 IO (io), AD26 IO (io), AD27 IO (io), AD28 IO (io), AD29 IO/TrueDiff_TX27n (io), AD30 IO/TrueDiff_TX27p (io), AD31 IO/TrueDiff_TX28n (io), AD32 IO/TrueDiff_TX28p (io), AE27 IO (io), AE28 IO (io), AE29 IO (io), AE31 IO/TrueDiff_TX26n (io), AE32 IO/TrueDiff_TX26p (io), AF29 IO/TrueDiff_TX24n (io), AF30 IO/TrueDiff_TX24p (io), AF31 IO/TrueDiff_TX25n (io), AF32 IO/TrueDiff_TX25p (io), AG29 IO/TrueDiff_TX22n (io), AG30 IO/TrueDiff_TX22p (io), AG31 IO/TrueDiff_TX23n (io), AG32 IO/TrueDiff_TX23p (io), AH29 IO/TrueDiff_TX20n (io), AH30 IO/TrueDiff_TX20p (io), AH31 IO/TrueDiff_TX21n (io), AH32 IO/TrueDiff_TX21p (io), AJ30 VCCIO7 (power), AJ31 IO/TrueDiff_TX19n (io), AJ32 IO/TrueDiff_TX19p (io), AK32 VCCIO7 (power), U20 VCCIO7 (power), U21 IO/LOCK2 (io), U22 IO/DEV_OE (io), U26 CLKLK_OUT2p (out), U27 IO/CLKLK_OUT2n (io), U28 IO (io), U29 CLK8p (in), U30 IO/CLK8n (io), U31 IO/CLK6n (io), U32 CLK6p (in), V21 IO (io), V22 VREFC7 (power), V25 IO (io), V26 IO (io), V27 IO (io), V28 IO (io), V29 IO/TrueDiff_TX36n (io), V30 IO/TrueDiff_TX36p (io), V31 IO (io), V32 IO (io), W21 IO (io), W22 IO (io), W23 IO (io), W25 IO (io), W26 IO (io), W27 IO (io), W28 IO (io), W29 IO/TrueDiff_TX35n (io), W30 IO/TrueDiff_TX35p (io), W31 IO/TXCLK_OUT2n (io), W32 IO/TXCLK_OUT2p (io), Y21 IO (io), Y22 IO (io), Y23 IO (io), Y24 IO (io), Y25 IO (io), Y26 IO (io), Y27 IO (io), Y28 IO (io), Y29 IO/TrueDiff_TX34n (io), Y30 IO/TrueDiff_TX34p (io), Y31 IO/TrueDiff_TX33p (io)
part H pins: C32 VCCIO8 (power), D30 VCCIO8 (power), D31 IO/TrueDiff_TX01n (io), D32 IO/TrueDiff_TX01p (io), E29 IO/TrueDiff_TX02n (io), E30 IO/TrueDiff_TX02p (io), E31 IO/TrueDiff_TX03n (io), E32 IO/TrueDiff_TX03p (io), F28 IO (io), F29 IO/TrueDiff_TX04n (io), F30 IO/TrueDiff_TX04p (io), F31 IO/TrueDiff_TX05n (io), F32 IO/TrueDiff_TX05p (io), G27 IO (io), G28 IO (io), G29 IO/TrueDiff_TX06n (io), G30 IO/TrueDiff_TX06p (io), G31 IO/TrueDiff_TX07n (io), G32 IO/TrueDiff_TX07p (io), H26 IO (io), H27 IO (io), H28 IO (io), H29 IO (io), H30 IO (io), H31 IO/TrueDiff_TX08n (io), H32 IO/TrueDiff_TX08p (io), J25 IO/nWS (io), J26 IO/nRS (io), J27 IO (io), J28 IO (io), J29 IO/TrueDiff_TX09p (io), J30 IO/TrueDiff_TX09n (io), J31 IO/TrueDiff_TX10n (io), J32 IO/TrueDiff_TX10p (io), K23 IO/LOCK4 (io), K24 IO/CS (io), K25 IO/nCS (io), K26 IO/DEV_CLRn (io), K27 IO (io), K28 IO (io), K29 IO/TrueDiff_TX11n (io), K30 IO/TrueDiff_TX11p (io), K31 IO/TrueDiff_TX12n (io), K32 IO/TrueDiff_TX12p (io), L22 IO (io), L23 IO (io), L24 IO/TXLOCK1 (io), L25 IO (io), L26 IO (io), L27 IO (io), L28 IO (io), L29 IO/TrueDiff_TX13n (io), L30 IO/TrueDiff_TX13p (io), L31 IO/TrueDiff_TX14n (io), L32 VCCIO8 (power), M21 VCCIO8 (power), M22 IO (io), M23 IO (io), M24 IO (io), M25 IO/DATA6 (io), M26 IO (io), M27 IO (io), M28 IO (io), M29 IO (io), M30 IO (io), M31 IO/TrueDiff_TX14p (io), M32 IO/TrueDiff_TX15n (io), N21 IO (io), N22 IO (io), N23 IO (io), N24 IO (io), N25 IO (io), N26 IO (io), N27 IO (io), N28 IO (io), N29 IO/TrueDiff_TX16n (io), N30 IO/TrueDiff_TX16p (io), N31 IO/TrueDiff_TX15p (io), P21 IO (io), P22 IO (io), P23 VREFC8 (power), P25 IO (io), P26 IO (io), P27 IO (io), P28 IO/DATA7 (io), P29 IO/TrueDiff_TX17n (io), P30 IO/TrueDiff_TX17p (io), P31 IO/TXCLK_OUT1n (io), P32 IO/TXCLK_OUT1p (io), R21 IO (io), R22 IO (io), R25 IO (io), R26 IO (io), R27 IO (io), R28 IO/CLKLK_FB2n (io), R29 IO/TrueDiff_TX18n (io), R30 IO/TrueDiff_TX18p (io), R31 IO (io), R32 IO (io), T20 VCCIO8 (power), T28 CLKLK_FB2p, T29 CLK2p (in), T30 IO/CLK2n (io), T31 IO/CLK4n (io), T32 CLK4p (in)
part I pins: AC16 FAST3 (in), AC17 FAST4 (in), AD16 TCK (in), AD17 nSTATUS (in), AE16 TMS (in), AE17 CONF_DONE (in), H16 FAST1 (in), H17 TDO (out), J16 nCEO (out), J17 FAST2 (in), K16 TRST (in), R7 MSEL1 (in), T7 nCONFIG (in), T8 VCCSEL (in), T11 PLL_ENA (in), T12 MSEL0 (in), T21 TDI (in), T22 nCE (in), T25 DATA0 (in), T26 nIO_PULLUP (in), T27 DCLK (in)
part J pins: A2 GND (power), A13 GND (power), A20 GND (power), A31 GND (power), AA13 GND (power), AA14 VCCINT (power), AA15 VCCINT (power), AA16 VCCINT (power), AA17 VCCINT (power), AA18 VCCINT (power), AA19 VCCINT (power), AA20 GND (power), AB12 GND (power), AB13 GND (power), AB14 GND (power), AB15 GND (power), AB18 GND (power), AB19 GND (power), AB20 GND (power), AB21 GND (power), AC11 GND (power), AC13 NC, AC22 GND (power), AD10 GND (power), AD11 NC, AD13 NC, AD18 NC, AD21 NC, AD22 NC, AD23 GND (power), AE25 NC, AE30 NC, AF6 NC, AF7 NC, AF12 NC, AF21 NC, AF25 NC, AF27 NC, AF28 NC, AG28 NC, AH5 GND (power), AH28 GND (power), AJ4 GND (power), AJ29 GND (power), AK2 GND (power), AK3 GND (power), AK30 GND (power), AK31 GND (power), AL1 GND (power), AL2 GND (power), AL3 GND (power), AL30 GND (power), AL31 GND (power), AL32 GND (power), AM2 GND (power), AM13 GND (power), AM20 GND (power), AM31 GND (power), B1 GND (power), B2 GND (power), B3 GND (power), B30 GND (power), B31 GND (power), B32 GND (power), C2 GND (power), C3 GND (power), C30 GND (power), C31 GND (power), D4 GND (power), D29 GND (power), E5 GND (power), E28 GND (power), G8 NC, G10 NC, G12 NC, G13 NC, G26 NC, H8 NC, H12 NC, J11 NC, J21 NC, J22 NC, J23 GND (power), J24 GND (power), K11 GND (power), K17 GND (power), K22 GND (power), L12 GND (power), L13 GND (power), L14 GND (power), L15 GND (power), L18 GND (power), L19 GND (power), L20 GND (power), L21 GND (power), M13 GND (power), M14 VCCINT (power), M15 VCCINT (power), M16 VCCINT (power), M17 VCCINT (power), M18 VCCINT (power), M19 VCCINT (power), M20 GND (power), N1 GND (power), N13 GND (power), N14 VCCINT (power), N15 VCCINT (power), N16 GND (power), N17 GND (power), N18 VCCINT (power), N19 VCCINT (power), N20 GND (power), N32 GND (power), P9 VCC_CKLK5 (power), P10 GND_CKLK5 (power), P13 GND (power), P14 VCCINT (power), P15 VCCINT (power), P16 VCCINT (power), P17 VCCINT (power), P18 VCCINT (power), P19 VCCINT (power), P20 GND (power), P24 VCC_CKLK6 (power), R9 GND_CKLK5 (power), R10 GND_CKLK3 (power), R13 GND (power), R14 VCCINT (power), R15 VCCINT (power), R16 VCCINT (power), R17 VCCINT (power), R18 VCCINT (power), R19 GND (power), R20 GND (power), R23 VCC_CKLK4 (power), R24 GND_CKLK6 (power), T9 VCC_CKOUT1 (power), T10 VCC_CKLK3 (power), T14 VCCINT (power), T15 GND (power), T16 VCCINT (power), T17 VCCINT (power), T18 GND (power), T19 VCCINT (power), T23 GND_CKLK2 (power), T24 GND_CKLK4 (power), U9 GND_CKOUT1 (power), U10 GND_CKLK1 (power), U14 VCCINT (power), U15 GND (power), U16 VCCINT (power), U17 VCCINT (power), U18 GND (power), U19 VCCINT (power), U23 VCC_CKLK2 (power), U24 VCC_CKOUT2 (power), U25 VCC_CKLKA (power), V4 VCC_CKLKA (power), V9 VCC_CKLK1 (power), V10 VCC_CKLK7 (power), V13 GND (power), V14 VCCINT (power), V15 VCCINT (power), V16 VCCINT (power), V17 VCCINT (power), V18 VCCINT (power), V19 GND (power), V20 GND (power), V23 GND_CKOUT2 (power), V24 GND_CKLK8 (power), W9 GND_CKLK7 (power), W10 GND_CKLK7 (power), W13 GND (power), W14 VCCINT (power), W15 VCCINT (power), W16 VCCINT (power), W17 VCCINT (power), W18 VCCINT (power), W19 VCCINT (power), W20 GND (power), W24 VCC_CKLK8 (power), Y1 GND (power), Y13 GND (power), Y14 VCCINT (power), Y15 VCCINT (power), Y16 GND (power), Y17 GND (power), Y18 VCCINT (power), Y19 VCCINT (power), Y20 GND (power), Y32 GND (power)
part A text: BANK 1
part B text: BANK 2
part C text: BANK 3
part D text: BANK 4
part E text: BANK 5
part F text: BANK 6
part G text: BANK 7
part H text: BANK 8

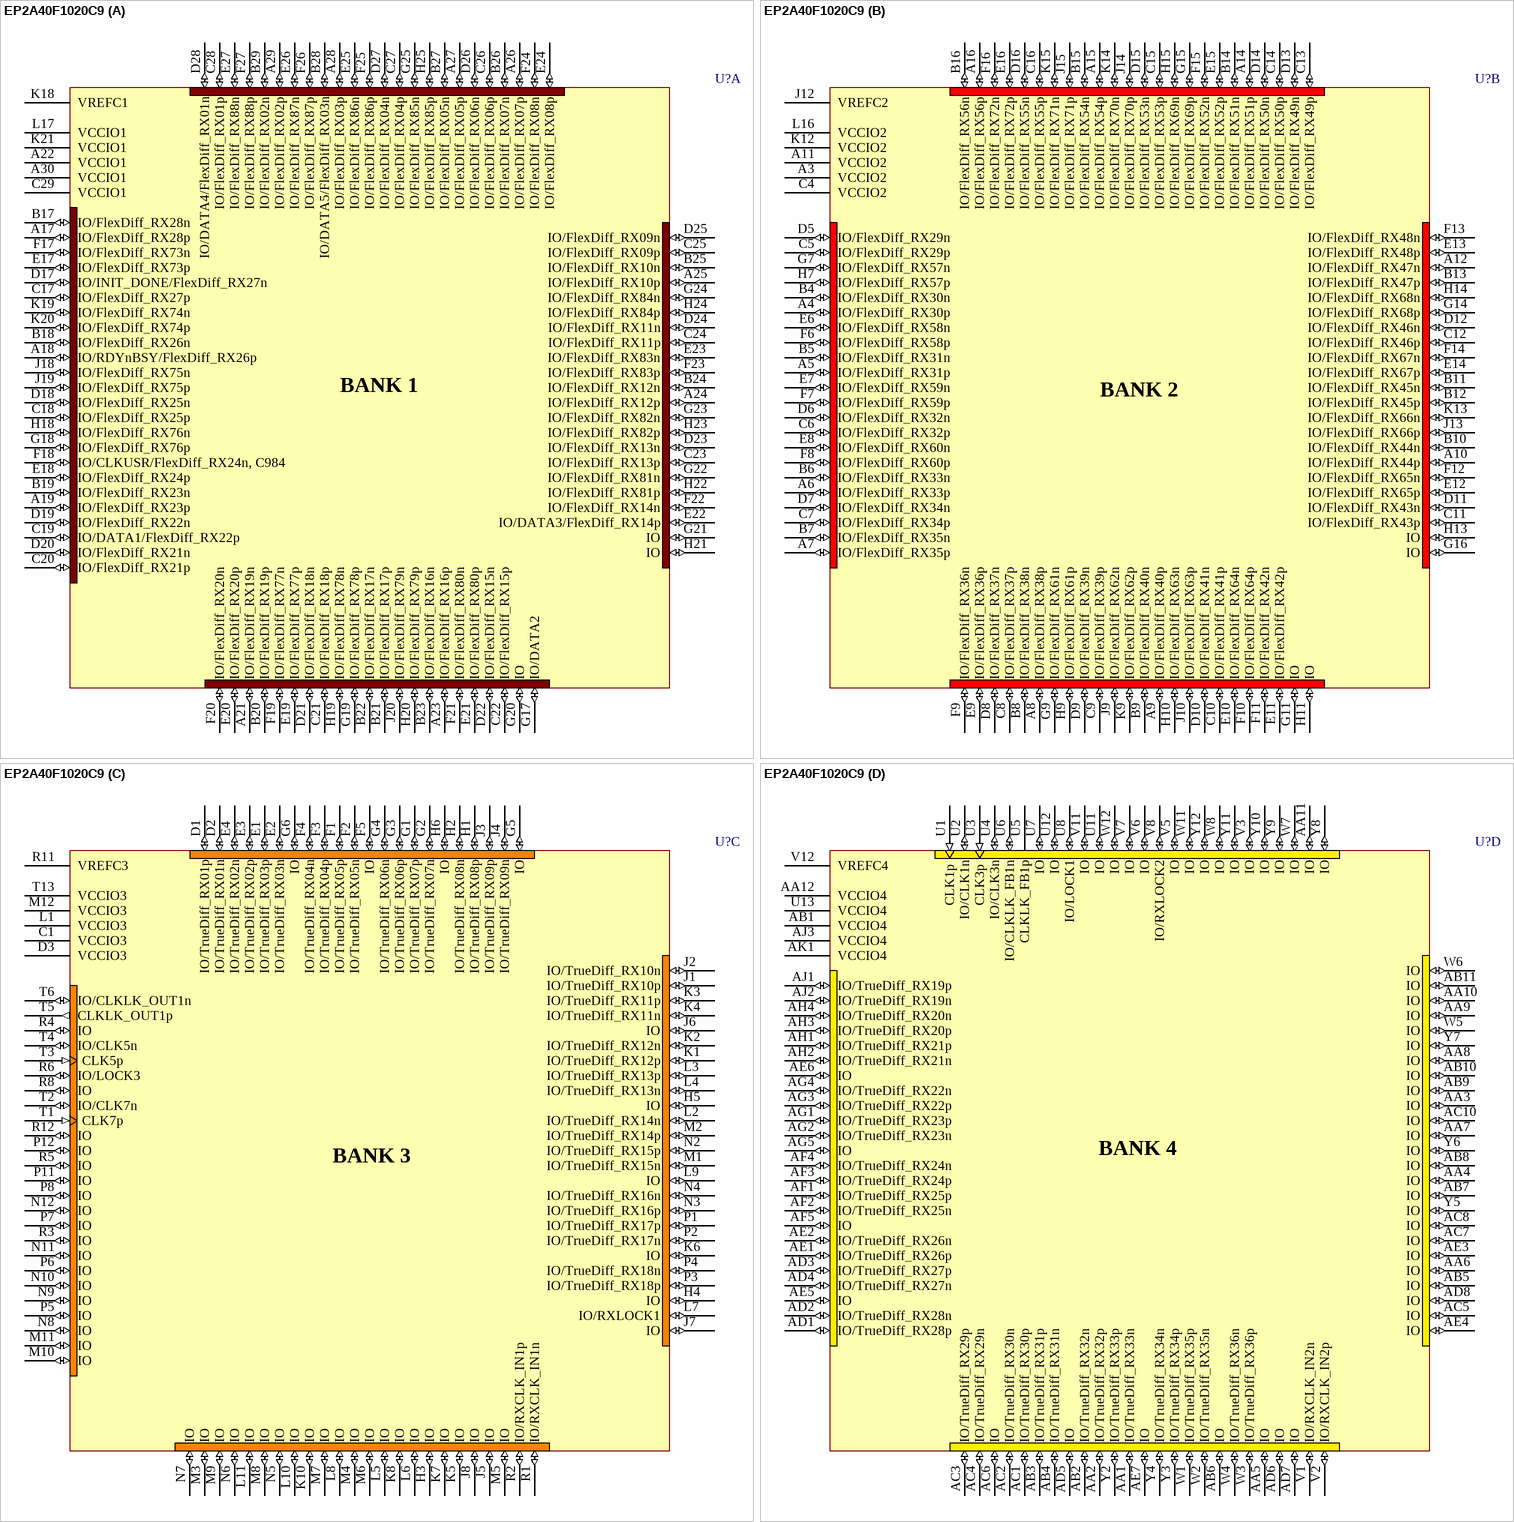
[diagram p97: symbol EP2A40F1020C9]

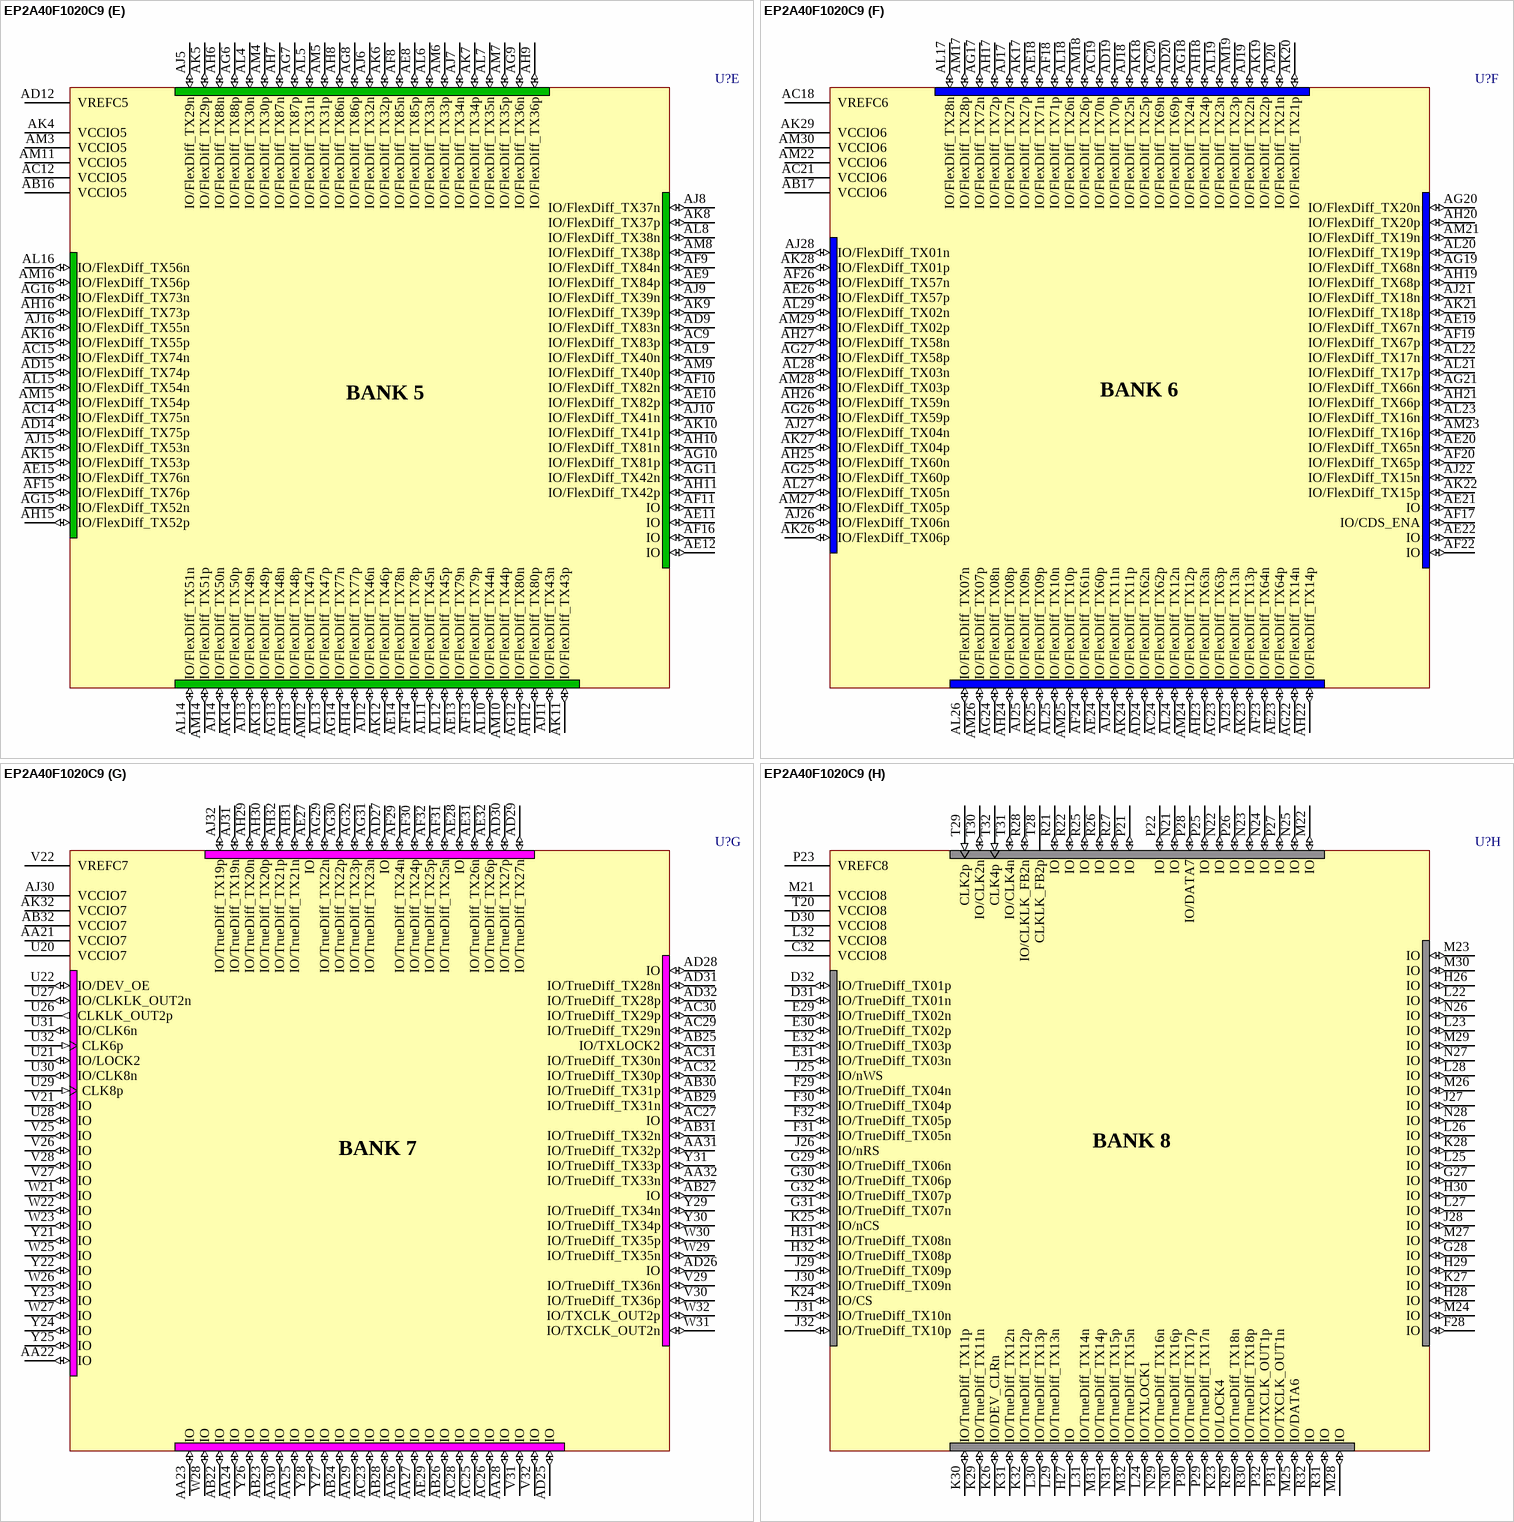
[diagram p98: symbol EP2A40F1020C9]

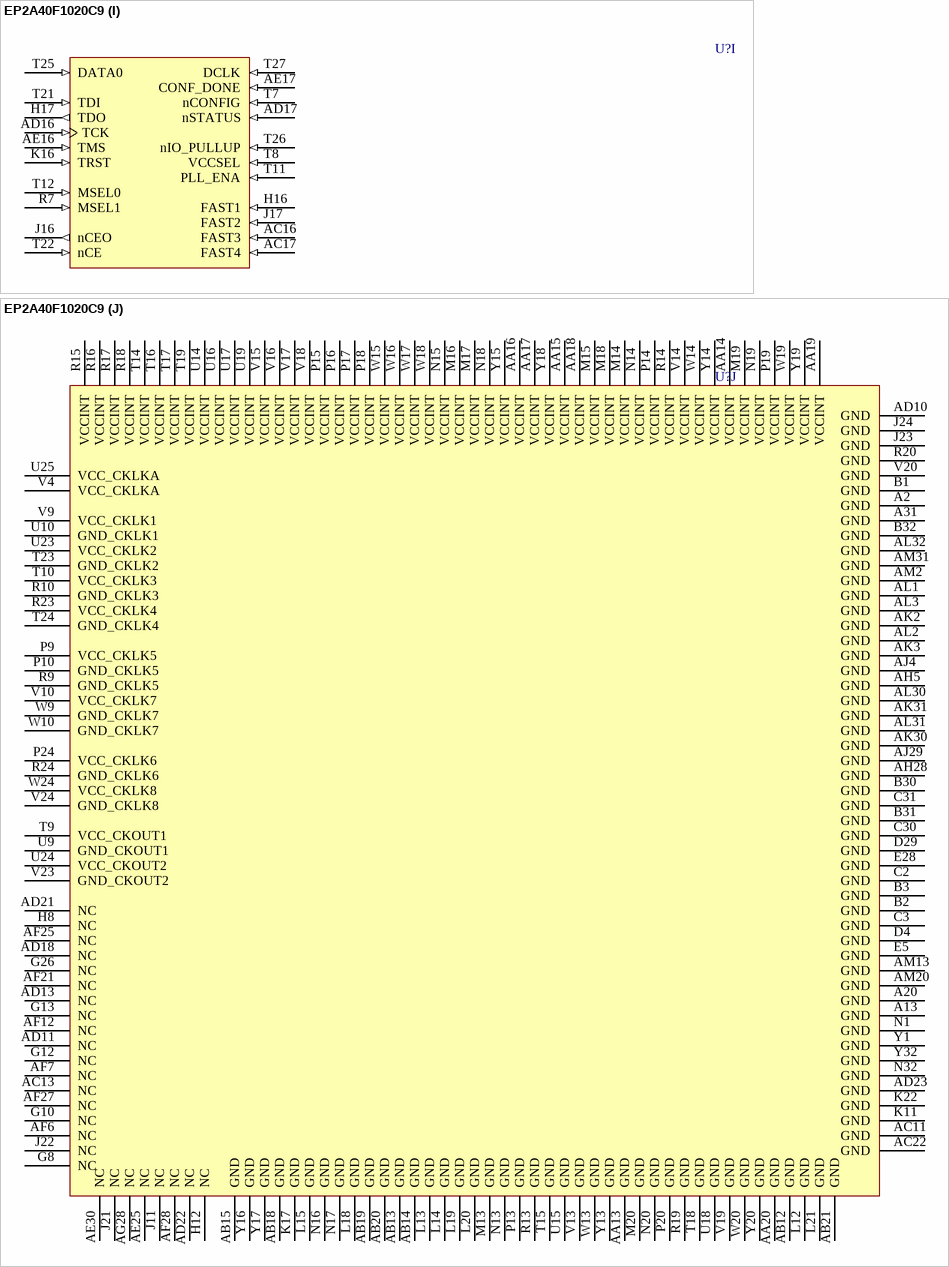
[diagram p99: symbol EP2A40F1020C9]